# Altium integrated library Altera Cyclone II.IntLib: 234 symbols (part 24 of 38)
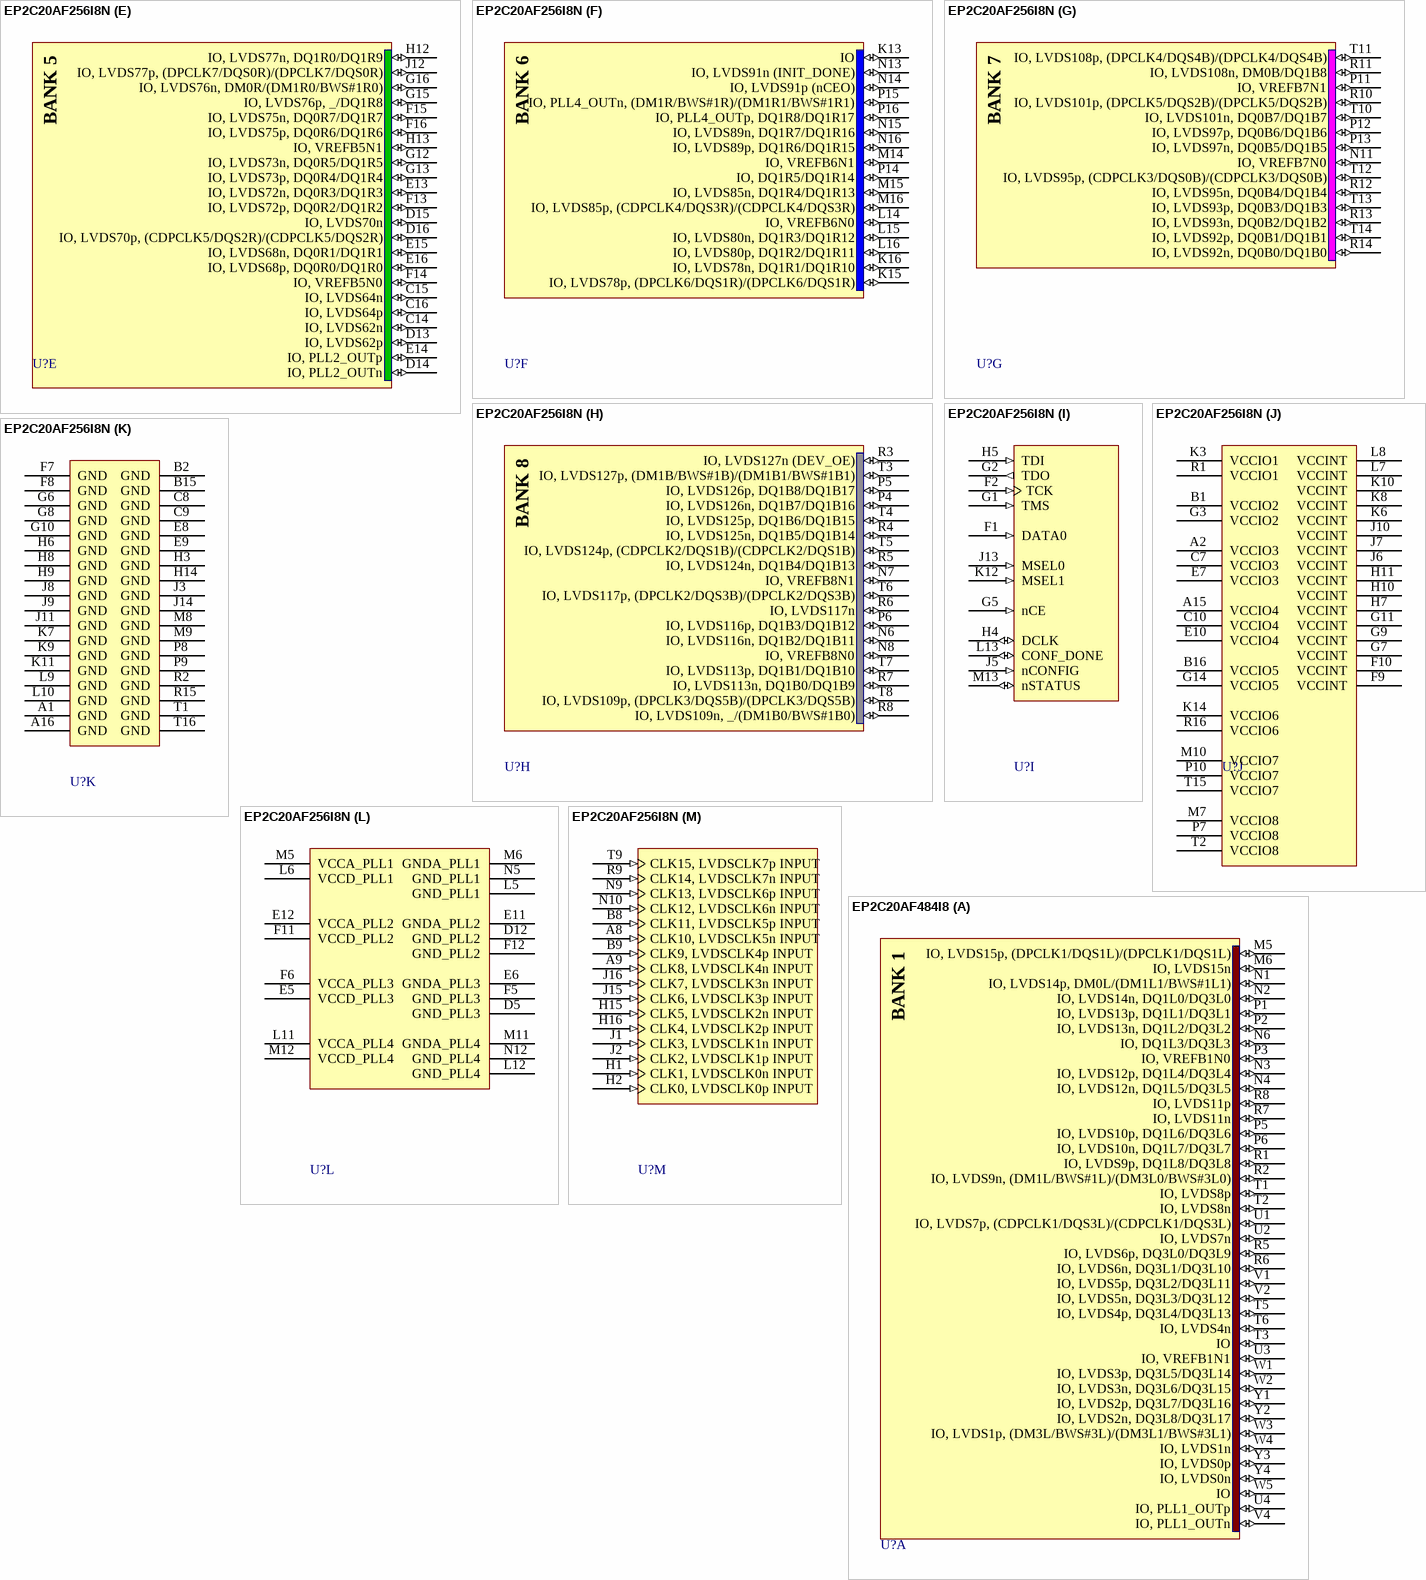
[diagram p414: symbols EP2C20AF256I8N to EP2C20AF484I8]

## EP2C20AF256I8N
designator U?
Cyclone II Family, 1.2V FPGA, 152 I/O Pins, 4 PLLs, 256-Pin FBGA, Speed Grade 8, Industrial Grade, Pb-Free; Note: DQS signal pins named according to DQ bus modes.  "/" separates each mode. ie. Modes x8/x9 / Modes x16/x18.; DatasheetVersion: ver3.3, Feb-2008; PackageVersion: ver16.0, Dec-2009; PackageReference: FBGA256-2; PackageDescription: 256-Ball FineLine Ball Grid Array (FBGA256) - Option 2 - Wire Bond; Code_JEDEC: MO-192-DAF-1; ComponentLink1Description: Manufacturer URL; ComponentLink1URL: http://www.altera.com/; ComponentLink2Description: Handbook; ComponentLink2URL: http://www.altera.com/literature/hb/cyc2/cyc2_cii5v1.pdf; ComponentLink3Description: Package Specification; ComponentLink3URL: http://www.altera.com/literature/ds/dspkg.pdf
footprint FBGA256-2 (BGA, 256-Leads, Body 17x17mm, Pitch 1mm)
part A pins: J4 IO, VREFB1N0 (io), K1 IO, LVDS15n, DQ0L6/DQ1L6 (io), K2 IO, LVDS15p, (DPCLK1/DQS1L)/(DPCLK1/DQS1L) (io), K4 IO, LVDS14p, DQ0L7/DQ1L7 (io), K5 IO, LVDS14n, _/DQ1L8 (io), L1 IO, LVDS13p, DM0L/(DM1L0/BWS#1L0) (io), L2 IO, LVDS13n, DQ1L0/DQ1L9 (io), L3 IO, VREFB1N1 (io), L4 IO, PLL1_OUTp (io), M1 IO, LVDS7p, (CDPCLK1/DQS3L)/(CDPCLK1/DQS3L) (io), M2 IO, LVDS7n, DQ1L1/DQ1L10 (io), M3 IO, DQ1L2/DQ1L11 (io), M4 IO, PLL1_OUTn (io), N1 IO, LVDS3p, DQ1L3/DQ1L12 (io), N2 IO, LVDS3n, DQ1L4/DQ1L13 (io), N3 IO, LVDS0p, DQ1L7/DQ1L16 (io), N4 IO, LVDS0n, DQ1L8/DQ1L17 (io), P1 IO, LVDS2p, DQ1L5/DQ1L14 (io), P2 IO, LVDS2n, DQ1L6/DQ1L15 (io), P3 IO, (DM1L/BWS#1L)/(DM1L1/BWS#1L1) (io)
part B pins: C1 IO, LVDS26p (CRC_ERROR) (io), C2 IO, LVDS26n (CLKUSR) (io), C3 IO, (ASDO) (io), D1 IO, LVDS20n, DQ0L2/DQ1L2 (io), D2 IO, LVDS20p, (CDPCLK0/DQS2L)/(CDPCLK0/DQS2L) (io), D3 IO, PLL3_OUTp, DQ0L0/DQ1L0 (io), D4 IO, PLL3_OUTn, DQ0L1/DQ1L1 (io), E1 IO, LVDS16p, (DPCLK0/DQS0L)/(DPCLK0/DQS0L) (io), E2 IO, LVDS16n, DQ0L5/DQ1L5 (io), E3 IO, LVDS19p, DQ0L3/DQ1L3 (io), E4 IO, LVDS19n, DQ0L4/DQ1L4 (io), F3 IO, VREFB2N0 (io), F4 IO, (nCSO) (io), G4 IO, VREFB2N1 (io)
part C pins: A3 IO, LVDS27p, (DM1T/BWS#1T)/(DM1T1/BWS#1T1) (io), A4 IO, LVDS28p, DQ1T8/DQ1T17 (io), A5 IO, LVDS30p, (CDPCLK7/DQS1T)/(CDPCLK7/DQS1T) (io), A6 IO, LVDS36p, (DPCLK11/DQS3T)/(DPCLK11/DQS3T) (io), A7 IO, LVDS44n, DQ1T0/DQ1T9 (io), B3 IO, LVDS27n (DEV_CLRn) (io), B4 IO, LVDS28n, DQ1T7/DQ1T16 (io), B5 IO, LVDS30n, DQ1T6/DQ1T15 (io), B6 IO, LVDS36n, DQ1T1/DQ1T10 (io), B7 IO, LVDS44p, (DPCLK10/DQS5T)/(DPCLK10/DQS5T) (io), C4 IO, DQ1T5/DQ1T14 (io), C5 IO, VREFB3N1 (io), C6 IO, LVDS32p, DQ1T4/DQ1T13 (io), D6 IO, LVDS32n, DQ1T3/DQ1T12 (io), D7 IO, DQ1T2/DQ1T11 (io), D8 IO, VREFB3N0 (io)
part D pins: A10 IO, LVDS52p, (DPCLK8/DQS2T)/(DPCLK8/DQS2T) (io), A11 IO, LVDS54p, DQ0T7/DQ1T7 (io), A12 IO, LVDS58p, (CDPCLK6/DQS0T)/(CDPCLK6/DQS0T) (io), A13 IO, LVDS59p, DQ0T4/DQ1T4 (io), A14 IO, LVDS61p, DQ0T0/DQ1T0 (io), B10 IO, LVDS52n, _/DQ1T8 (io), B11 IO, LVDS54n, DQ0T6/DQ1T6 (io), B12 IO, LVDS58n, DQ0T5/DQ1T5 (io), B13 IO, LVDS59n, DQ0T3/DQ1T3 (io), B14 IO, LVDS61n (io), C11 IO, VREFB4N0 (io), C12 IO, LVDS60p, DQ0T2/DQ1T2 (io), C13 IO, LVDS60n, DQ0T1/DQ1T1 (io), D9 IO, VREFB4N1 (io), D10 IO, LVDS45p, (DPCLK9/DQS4T)/(DPCLK9/DQS4T) (io), D11 IO, LVDS45n, DM0T/(DM1T0/BWS#1T0) (io)
part E pins: C14 IO, LVDS62n (io), C15 IO, LVDS64n (io), C16 IO, LVDS64p (io), D13 IO, LVDS62p (io), D14 IO, PLL2_OUTn (io), D15 IO, LVDS70n (io), D16 IO, LVDS70p, (CDPCLK5/DQS2R)/(CDPCLK5/DQS2R) (io), E13 IO, LVDS72n, DQ0R3/DQ1R3 (io), E14 IO, PLL2_OUTp (io), E15 IO, LVDS68n, DQ0R1/DQ1R1 (io), E16 IO, LVDS68p, DQ0R0/DQ1R0 (io), F13 IO, LVDS72p, DQ0R2/DQ1R2 (io), F14 IO, VREFB5N0 (io), F15 IO, LVDS75n, DQ0R7/DQ1R7 (io), F16 IO, LVDS75p, DQ0R6/DQ1R6 (io), G12 IO, LVDS73n, DQ0R5/DQ1R5 (io), G13 IO, LVDS73p, DQ0R4/DQ1R4 (io), G15 IO, LVDS76p, _/DQ1R8 (io), G16 IO, LVDS76n, DM0R/(DM1R0/BWS#1R0) (io), H12 IO, LVDS77n, DQ1R0/DQ1R9 (io), H13 IO, VREFB5N1 (io), J12 IO, LVDS77p, (DPCLK7/DQS0R)/(DPCLK7/DQS0R) (io)
part F pins: K13 IO (io), K15 IO, LVDS78p, (DPCLK6/DQS1R)/(DPCLK6/DQS1R) (io), K16 IO, LVDS78n, DQ1R1/DQ1R10 (io), L14 IO, VREFB6N0 (io), L15 IO, LVDS80n, DQ1R3/DQ1R12 (io), L16 IO, LVDS80p, DQ1R2/DQ1R11 (io), M14 IO, VREFB6N1 (io), M15 IO, LVDS85n, DQ1R4/DQ1R13 (io), M16 IO, LVDS85p, (CDPCLK4/DQS3R)/(CDPCLK4/DQS3R) (io), N13 IO, LVDS91n (INIT_DONE) (io), N14 IO, LVDS91p (nCEO) (io), N15 IO, LVDS89n, DQ1R7/DQ1R16 (io), N16 IO, LVDS89p, DQ1R6/DQ1R15 (io), P14 IO, DQ1R5/DQ1R14 (io), P15 IO, PLL4_OUTn, (DM1R/BWS#1R)/(DM1R1/BWS#1R1) (io), P16 IO, PLL4_OUTp, DQ1R8/DQ1R17 (io)
part G pins: N11 IO, VREFB7N0 (io), P11 IO, VREFB7N1 (io), P12 IO, LVDS97p, DQ0B6/DQ1B6 (io), P13 IO, LVDS97n, DQ0B5/DQ1B5 (io), R10 IO, LVDS101p, (DPCLK5/DQS2B)/(DPCLK5/DQS2B) (io), R11 IO, LVDS108n, DM0B/DQ1B8 (io), R12 IO, LVDS95n, DQ0B4/DQ1B4 (io), R13 IO, LVDS93n, DQ0B2/DQ1B2 (io), R14 IO, LVDS92n, DQ0B0/DQ1B0 (io), T10 IO, LVDS101n, DQ0B7/DQ1B7 (io), T11 IO, LVDS108p, (DPCLK4/DQS4B)/(DPCLK4/DQS4B) (io), T12 IO, LVDS95p, (CDPCLK3/DQS0B)/(CDPCLK3/DQS0B) (io), T13 IO, LVDS93p, DQ0B3/DQ1B3 (io), T14 IO, LVDS92p, DQ0B1/DQ1B1 (io)
part H pins: N6 IO, LVDS116n, DQ1B2/DQ1B11 (io), N7 IO, VREFB8N1 (io), N8 IO, VREFB8N0 (io), P4 IO, LVDS126n, DQ1B7/DQ1B16 (io), P5 IO, LVDS126p, DQ1B8/DQ1B17 (io), P6 IO, LVDS116p, DQ1B3/DQ1B12 (io), R3 IO, LVDS127n (DEV_OE) (io), R4 IO, LVDS125n, DQ1B5/DQ1B14 (io), R5 IO, LVDS124n, DQ1B4/DQ1B13 (io), R6 IO, LVDS117n (io), R7 IO, LVDS113n, DQ1B0/DQ1B9 (io), R8 IO, LVDS109n, _/(DM1B0/BWS#1B0) (io), T3 IO, LVDS127p, (DM1B/BWS#1B)/(DM1B1/BWS#1B1) (io), T4 IO, LVDS125p, DQ1B6/DQ1B15 (io), T5 IO, LVDS124p, (CDPCLK2/DQS1B)/(CDPCLK2/DQS1B) (io), T6 IO, LVDS117p, (DPCLK2/DQS3B)/(DPCLK2/DQS3B) (io), T7 IO, LVDS113p, DQ1B1/DQ1B10 (io), T8 IO, LVDS109p, (DPCLK3/DQS5B)/(DPCLK3/DQS5B) (io)
part I pins: F1 DATA0 (in), F2 TCK (in), G1 TMS (in), G2 TDO (out), G5 nCE (in), H4 DCLK (io), H5 TDI (in), J5 nCONFIG (in), J13 MSEL0 (in), K12 MSEL1 (in), L13 CONF_DONE (io), M13 nSTATUS (io)
part J pins: A2 VCCIO3 (power), A15 VCCIO4 (power), B1 VCCIO2 (power), B16 VCCIO5 (power), C7 VCCIO3 (power), C10 VCCIO4 (power), E7 VCCIO3 (power), E10 VCCIO4 (power), F9 VCCINT (power), F10 VCCINT (power), G3 VCCIO2 (power), G7 VCCINT (power), G9 VCCINT (power), G11 VCCINT (power), G14 VCCIO5 (power), H7 VCCINT (power), H10 VCCINT (power), H11 VCCINT (power), J6 VCCINT (power), J7 VCCINT (power), J10 VCCINT (power), K3 VCCIO1 (power), K6 VCCINT (power), K8 VCCINT (power), K10 VCCINT (power), K14 VCCIO6 (power), L7 VCCINT (power), L8 VCCINT (power), M7 VCCIO8 (power), M10 VCCIO7 (power), P7 VCCIO8 (power), P10 VCCIO7 (power), R1 VCCIO1 (power), R16 VCCIO6 (power), T2 VCCIO8 (power), T15 VCCIO7 (power)
part K pins: A1 GND (power), A16 GND (power), B2 GND (power), B15 GND (power), C8 GND (power), C9 GND (power), E8 GND (power), E9 GND (power), F7 GND (power), F8 GND (power), G6 GND (power), G8 GND (power), G10 GND (power), H3 GND (power), H6 GND (power), H8 GND (power), H9 GND (power), H14 GND (power), J3 GND (power), J8 GND (power), J9 GND (power), J11 GND (power), J14 GND (power), K7 GND (power), K9 GND (power), K11 GND (power), L9 GND (power), L10 GND (power), M8 GND (power), M9 GND (power), P8 GND (power), P9 GND (power), R2 GND (power), R15 GND (power), T1 GND (power), T16 GND (power)
part L pins: D5 GND_PLL3 (power), D12 GND_PLL2 (power), E5 VCCD_PLL3 (power), E6 GNDA_PLL3 (power), E11 GNDA_PLL2 (power), E12 VCCA_PLL2 (power), F5 GND_PLL3 (power), F6 VCCA_PLL3 (power), F11 VCCD_PLL2 (power), F12 GND_PLL2 (power), L5 GND_PLL1 (power), L6 VCCD_PLL1 (power), L11 VCCA_PLL4 (power), L12 GND_PLL4 (power), M5 VCCA_PLL1 (power), M6 GNDA_PLL1 (power), M11 GNDA_PLL4 (power), M12 VCCD_PLL4 (power), N5 GND_PLL1 (power), N12 GND_PLL4 (power)
part M pins: A8 CLK10, LVDSCLK5n INPUT (in), A9 CLK8, LVDSCLK4n INPUT (in), B8 CLK11, LVDSCLK5p INPUT (in), B9 CLK9, LVDSCLK4p INPUT (in), H1 CLK1, LVDSCLK0n INPUT (in), H2 CLK0, LVDSCLK0p INPUT (in), H15 CLK5, LVDSCLK2n INPUT (in), H16 CLK4, LVDSCLK2p INPUT (in), J1 CLK3, LVDSCLK1n INPUT (in), J2 CLK2, LVDSCLK1p INPUT (in), J15 CLK6, LVDSCLK3p INPUT (in), J16 CLK7, LVDSCLK3n INPUT (in), N9 CLK13, LVDSCLK6p INPUT (in), N10 CLK12, LVDSCLK6n INPUT (in), R9 CLK14, LVDSCLK7n INPUT (in), T9 CLK15, LVDSCLK7p INPUT (in)
part A text: BANK 1
part B text: BANK 2
part C text: BANK 3
part D text: BANK 4
part E text: BANK 5
part F text: BANK 6
part G text: BANK 7
part H text: BANK 8

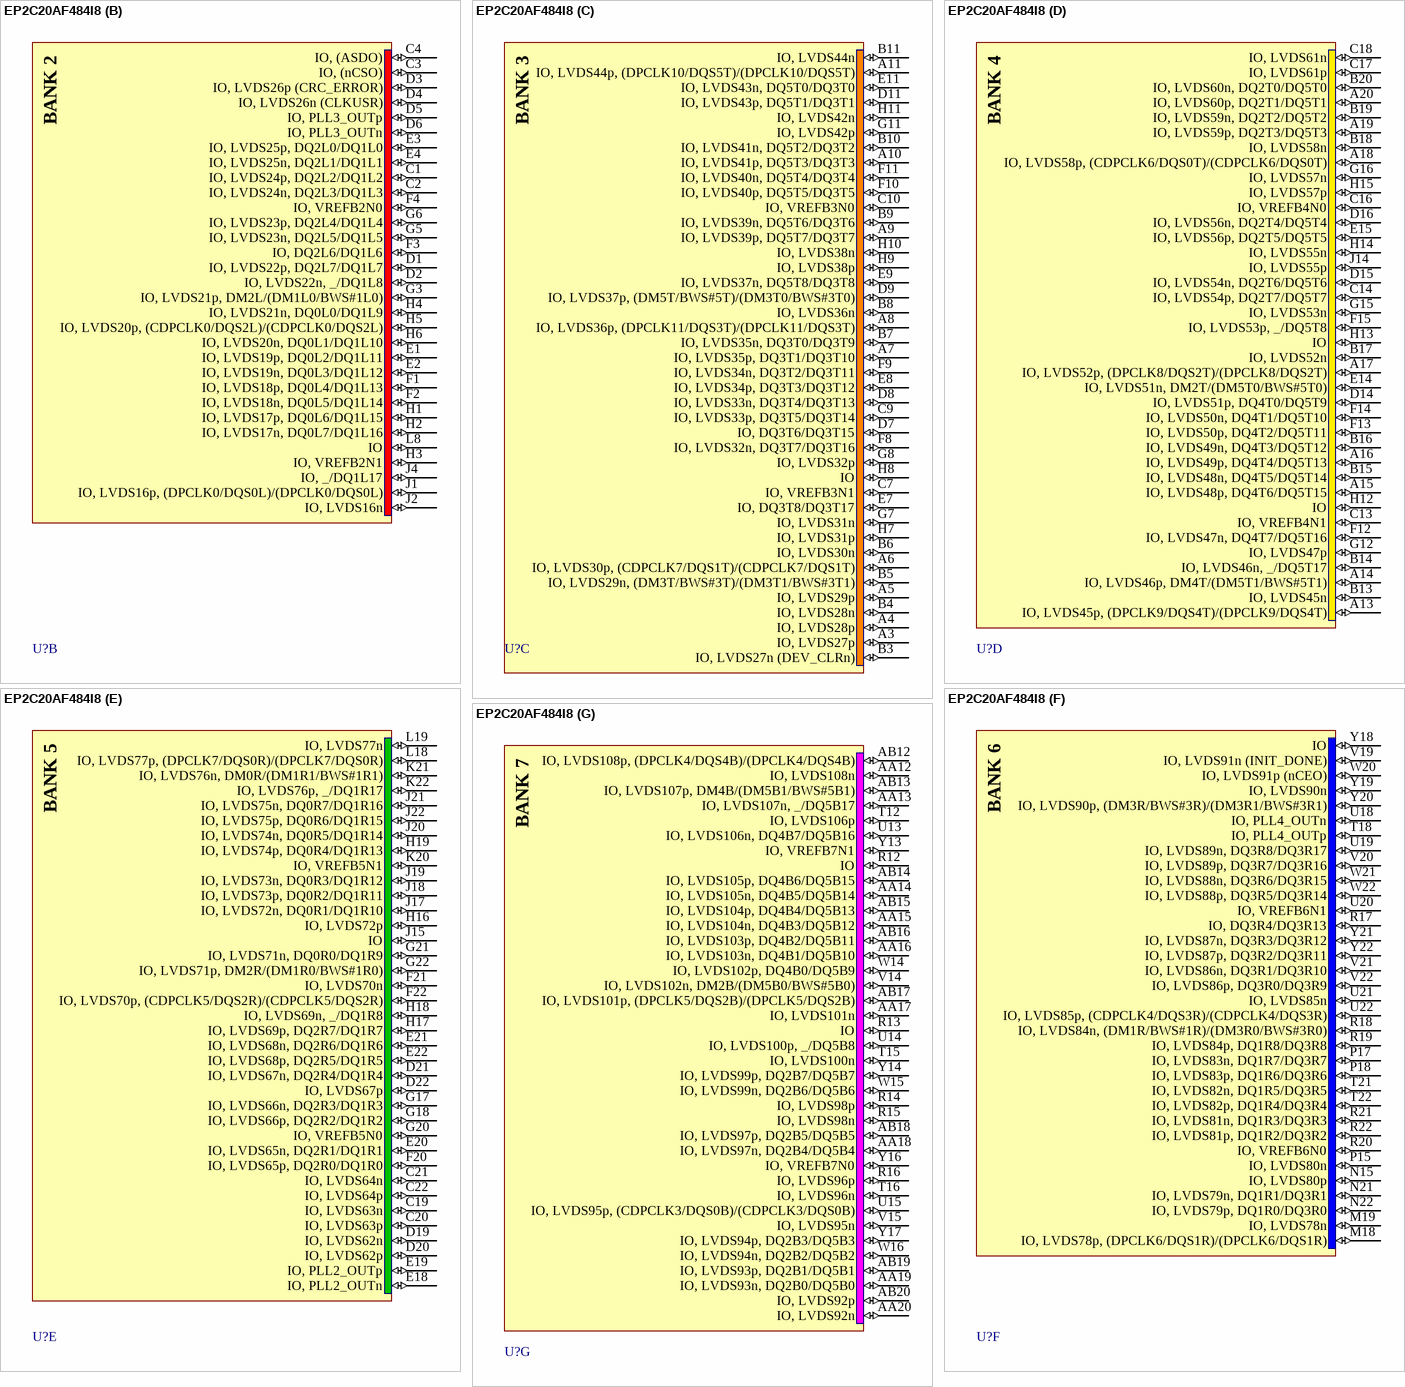
[diagram p105: symbol EP2C20AF484I8]

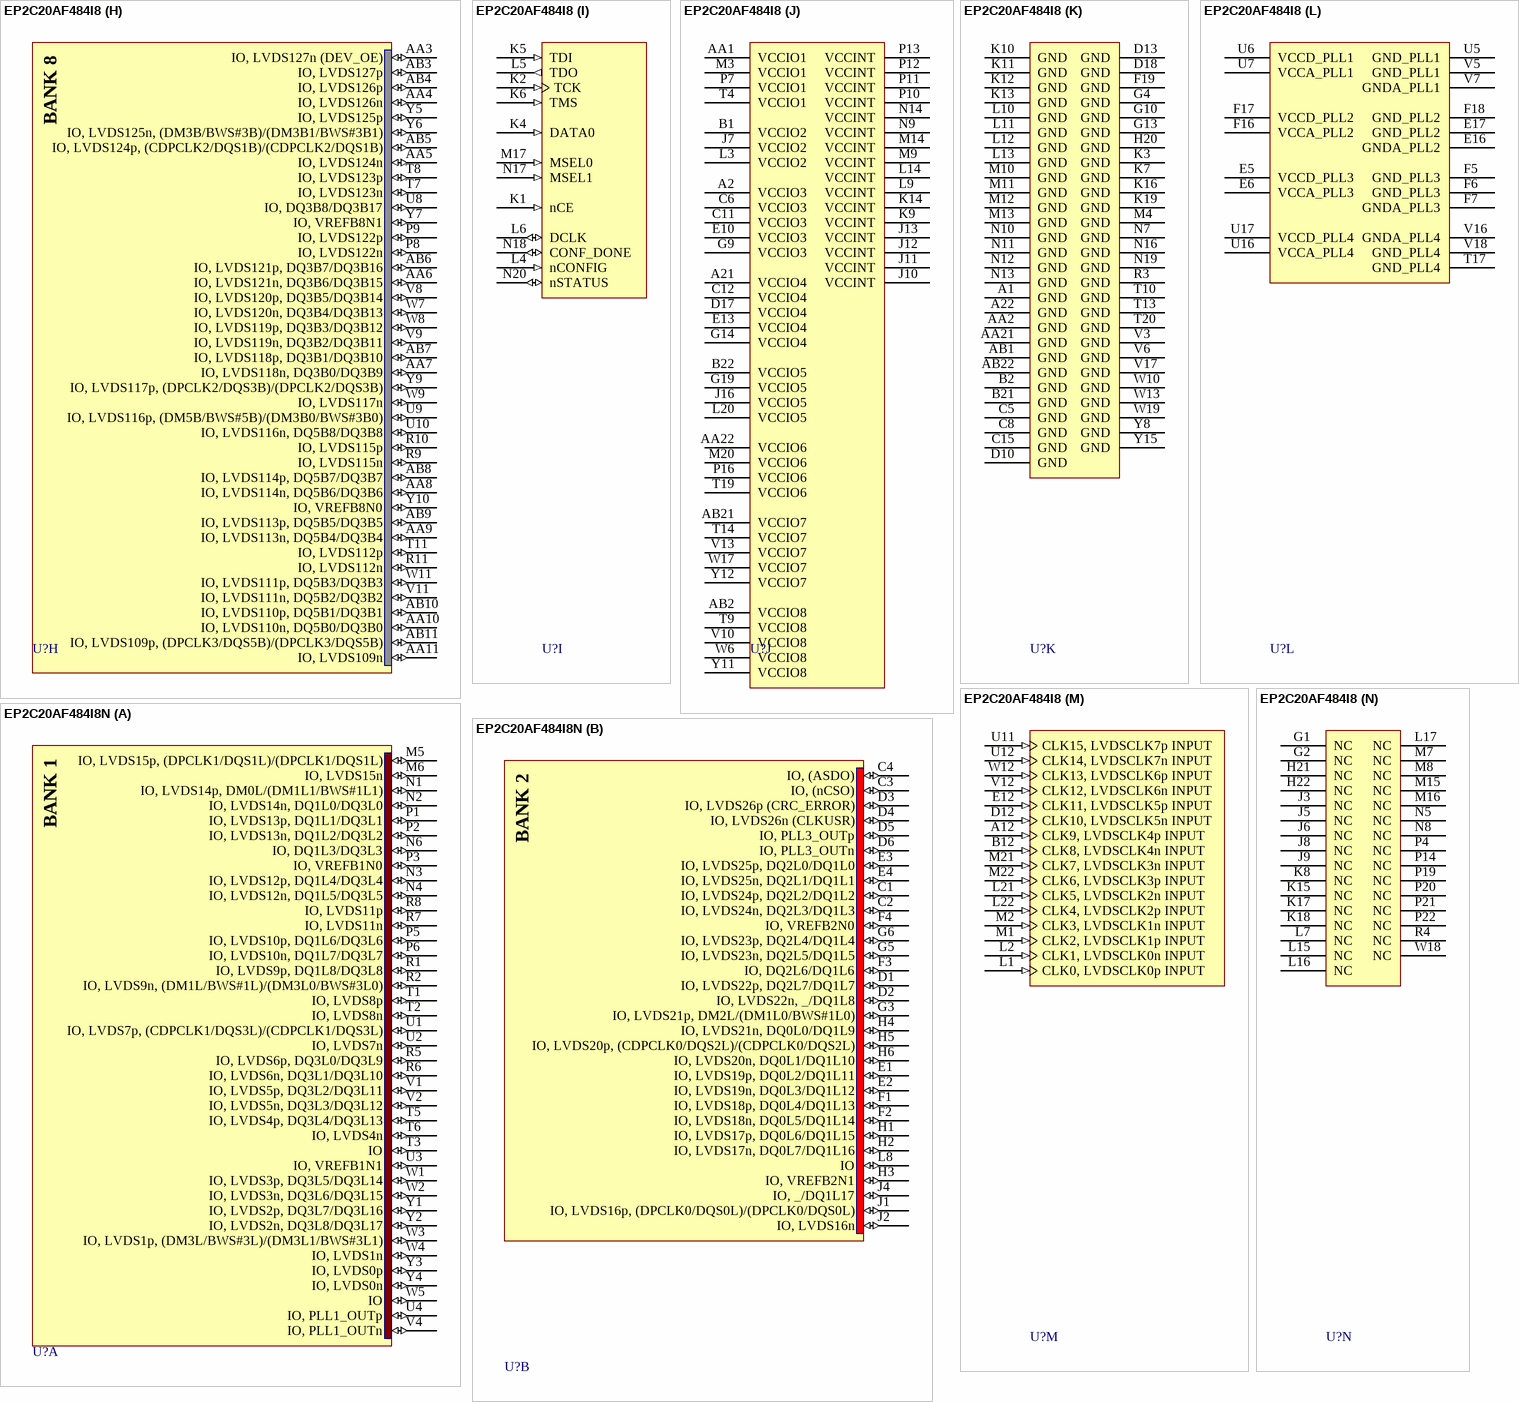
[diagram p106: symbols EP2C20AF484I8 to EP2C20AF484I8N]

## EP2C20AF484I8
designator U?
Cyclone II Family, 1.2V FPGA, 315 I/O Pins, 4 PLLs, 484-Pin FBGA, Speed Grade 8, Industrial Grade; Note: DQS signal pins named according to DQ bus modes.  "/" separates each mode. ie. Modes x8/x9 / Modes x16/x18.; DatasheetVersion: ver3.3, Feb-2008; PackageVersion: ver16.0, Dec-2009; PackageReference: FBGA484; PackageDescription: 484-Ball FineLine Ball Grid Array (FBGA484) - Flip Chip; Code_JEDEC: MS-034-AAJ-1; Code_IPC: BGA100P22X22-484; ComponentLink1Description: Manufacturer URL; ComponentLink1URL: http://www.altera.com/; ComponentLink2Description: Handbook; ComponentLink2URL: http://www.altera.com/literature/hb/cyc2/cyc2_cii5v1.pdf; ComponentLink3Description: Package Specification; ComponentLink3URL: http://www.altera.com/literature/ds/dspkg.pdf
footprint FBGA484 (BGA, 484-Leads, Body 23x23mm, Pitch 1mm)
part A pins: M5 IO, LVDS15p, (DPCLK1/DQS1L)/(DPCLK1/DQS1L) (io), M6 IO, LVDS15n (io), N1 IO, LVDS14p, DM0L/(DM1L1/BWS#1L1) (io), N2 IO, LVDS14n, DQ1L0/DQ3L0 (io), N3 IO, LVDS12p, DQ1L4/DQ3L4 (io), N4 IO, LVDS12n, DQ1L5/DQ3L5 (io), N6 IO, DQ1L3/DQ3L3 (io), P1 IO, LVDS13p, DQ1L1/DQ3L1 (io), P2 IO, LVDS13n, DQ1L2/DQ3L2 (io), P3 IO, VREFB1N0 (io), P5 IO, LVDS10p, DQ1L6/DQ3L6 (io), P6 IO, LVDS10n, DQ1L7/DQ3L7 (io), R1 IO, LVDS9p, DQ1L8/DQ3L8 (io), R2 IO, LVDS9n, (DM1L/BWS#1L)/(DM3L0/BWS#3L0) (io), R5 IO, LVDS6p, DQ3L0/DQ3L9 (io), R6 IO, LVDS6n, DQ3L1/DQ3L10 (io), R7 IO, LVDS11n (io), R8 IO, LVDS11p (io), T1 IO, LVDS8p (io), T2 IO, LVDS8n (io), T3 IO (io), T5 IO, LVDS4p, DQ3L4/DQ3L13 (io), T6 IO, LVDS4n (io), U1 IO, LVDS7p, (CDPCLK1/DQS3L)/(CDPCLK1/DQS3L) (io), U2 IO, LVDS7n (io), U3 IO, VREFB1N1 (io), U4 IO, PLL1_OUTp (io), V1 IO, LVDS5p, DQ3L2/DQ3L11 (io), V2 IO, LVDS5n, DQ3L3/DQ3L12 (io), V4 IO, PLL1_OUTn (io), W1 IO, LVDS3p, DQ3L5/DQ3L14 (io), W2 IO, LVDS3n, DQ3L6/DQ3L15 (io), W3 IO, LVDS1p, (DM3L/BWS#3L)/(DM3L1/BWS#3L1) (io), W4 IO, LVDS1n (io), W5 IO (io), Y1 IO, LVDS2p, DQ3L7/DQ3L16 (io), Y2 IO, LVDS2n, DQ3L8/DQ3L17 (io), Y3 IO, LVDS0p (io), Y4 IO, LVDS0n (io)
part B pins: C1 IO, LVDS24p, DQ2L2/DQ1L2 (io), C2 IO, LVDS24n, DQ2L3/DQ1L3 (io), C3 IO, (nCSO) (io), C4 IO, (ASDO) (io), D1 IO, LVDS22p, DQ2L7/DQ1L7 (io), D2 IO, LVDS22n, _/DQ1L8 (io), D3 IO, LVDS26p (CRC_ERROR) (io), D4 IO, LVDS26n (CLKUSR) (io), D5 IO, PLL3_OUTp (io), D6 IO, PLL3_OUTn (io), E1 IO, LVDS19p, DQ0L2/DQ1L11 (io), E2 IO, LVDS19n, DQ0L3/DQ1L12 (io), E3 IO, LVDS25p, DQ2L0/DQ1L0 (io), E4 IO, LVDS25n, DQ2L1/DQ1L1 (io), F1 IO, LVDS18p, DQ0L4/DQ1L13 (io), F2 IO, LVDS18n, DQ0L5/DQ1L14 (io), F3 IO, DQ2L6/DQ1L6 (io), F4 IO, VREFB2N0 (io), G3 IO, LVDS21p, DM2L/(DM1L0/BWS#1L0) (io), G5 IO, LVDS23n, DQ2L5/DQ1L5 (io), G6 IO, LVDS23p, DQ2L4/DQ1L4 (io), H1 IO, LVDS17p, DQ0L6/DQ1L15 (io), H2 IO, LVDS17n, DQ0L7/DQ1L16 (io), H3 IO, VREFB2N1 (io), H4 IO, LVDS21n, DQ0L0/DQ1L9 (io), H5 IO, LVDS20p, (CDPCLK0/DQS2L)/(CDPCLK0/DQS2L) (io), H6 IO, LVDS20n, DQ0L1/DQ1L10 (io), J1 IO, LVDS16p, (DPCLK0/DQS0L)/(DPCLK0/DQS0L) (io), J2 IO, LVDS16n (io), J4 IO, _/DQ1L17 (io), L8 IO (io)
part C pins: A3 IO, LVDS27p (io), A4 IO, LVDS28p (io), A5 IO, LVDS29p (io), A6 IO, LVDS30p, (CDPCLK7/DQS1T)/(CDPCLK7/DQS1T) (io), A7 IO, LVDS35p, DQ3T1/DQ3T10 (io), A8 IO, LVDS36p, (DPCLK11/DQS3T)/(DPCLK11/DQS3T) (io), A9 IO, LVDS39p, DQ5T7/DQ3T7 (io), A10 IO, LVDS41p, DQ5T3/DQ3T3 (io), A11 IO, LVDS44p, (DPCLK10/DQS5T)/(DPCLK10/DQS5T) (io), B3 IO, LVDS27n (DEV_CLRn) (io), B4 IO, LVDS28n (io), B5 IO, LVDS29n, (DM3T/BWS#3T)/(DM3T1/BWS#3T1) (io), B6 IO, LVDS30n (io), B7 IO, LVDS35n, DQ3T0/DQ3T9 (io), B8 IO, LVDS36n (io), B9 IO, LVDS39n, DQ5T6/DQ3T6 (io), B10 IO, LVDS41n, DQ5T2/DQ3T2 (io), B11 IO, LVDS44n (io), C7 IO, VREFB3N1 (io), C9 IO, LVDS33p, DQ3T5/DQ3T14 (io), C10 IO, VREFB3N0 (io), D7 IO, DQ3T6/DQ3T15 (io), D8 IO, LVDS33n, DQ3T4/DQ3T13 (io), D9 IO, LVDS37p, (DM5T/BWS#5T)/(DM3T0/BWS#3T0) (io), D11 IO, LVDS43p, DQ5T1/DQ3T1 (io), E7 IO, DQ3T8/DQ3T17 (io), E8 IO, LVDS34p, DQ3T3/DQ3T12 (io), E9 IO, LVDS37n, DQ5T8/DQ3T8 (io), E11 IO, LVDS43n, DQ5T0/DQ3T0 (io), F8 IO, LVDS32n, DQ3T7/DQ3T16 (io), F9 IO, LVDS34n, DQ3T2/DQ3T11 (io), F10 IO, LVDS40p, DQ5T5/DQ3T5 (io), F11 IO, LVDS40n, DQ5T4/DQ3T4 (io), G7 IO, LVDS31n (io), G8 IO, LVDS32p (io), G11 IO, LVDS42p (io), H7 IO, LVDS31p (io), H8 IO (io), H9 IO, LVDS38p (io), H10 IO, LVDS38n (io), H11 IO, LVDS42n (io)
part D pins: A13 IO, LVDS45p, (DPCLK9/DQS4T)/(DPCLK9/DQS4T) (io), A14 IO, LVDS46p, DM4T/(DM5T1/BWS#5T1) (io), A15 IO, LVDS48p, DQ4T6/DQ5T15 (io), A16 IO, LVDS49p, DQ4T4/DQ5T13 (io), A17 IO, LVDS52p, (DPCLK8/DQS2T)/(DPCLK8/DQS2T) (io), A18 IO, LVDS58p, (CDPCLK6/DQS0T)/(CDPCLK6/DQS0T) (io), A19 IO, LVDS59p, DQ2T3/DQ5T3 (io), A20 IO, LVDS60p, DQ2T1/DQ5T1 (io), B13 IO, LVDS45n (io), B14 IO, LVDS46n, _/DQ5T17 (io), B15 IO, LVDS48n, DQ4T5/DQ5T14 (io), B16 IO, LVDS49n, DQ4T3/DQ5T12 (io), B17 IO, LVDS52n (io), B18 IO, LVDS58n (io), B19 IO, LVDS59n, DQ2T2/DQ5T2 (io), B20 IO, LVDS60n, DQ2T0/DQ5T0 (io), C13 IO, VREFB4N1 (io), C14 IO, LVDS54p, DQ2T7/DQ5T7 (io), C16 IO, VREFB4N0 (io), C17 IO, LVDS61p (io), C18 IO, LVDS61n (io), D14 IO, LVDS51p, DQ4T0/DQ5T9 (io), D15 IO, LVDS54n, DQ2T6/DQ5T6 (io), D16 IO, LVDS56n, DQ2T4/DQ5T4 (io), E14 IO, LVDS51n, DM2T/(DM5T0/BWS#5T0) (io), E15 IO, LVDS56p, DQ2T5/DQ5T5 (io), F12 IO, LVDS47n, DQ4T7/DQ5T16 (io), F13 IO, LVDS50p, DQ4T2/DQ5T11 (io), F14 IO, LVDS50n, DQ4T1/DQ5T10 (io), F15 IO, LVDS53p, _/DQ5T8 (io), G12 IO, LVDS47p (io), G15 IO, LVDS53n (io), G16 IO, LVDS57n (io), H12 IO (io), H13 IO (io), H14 IO, LVDS55n (io), H15 IO, LVDS57p (io), J14 IO, LVDS55p (io)
part E pins: C19 IO, LVDS63n (io), C20 IO, LVDS63p (io), C21 IO, LVDS64n (io), C22 IO, LVDS64p (io), D19 IO, LVDS62n (io), D20 IO, LVDS62p (io), D21 IO, LVDS67n, DQ2R4/DQ1R4 (io), D22 IO, LVDS67p (io), E18 IO, PLL2_OUTn (io), E19 IO, PLL2_OUTp (io), E20 IO, LVDS65n, DQ2R1/DQ1R1 (io), E21 IO, LVDS68n, DQ2R6/DQ1R6 (io), E22 IO, LVDS68p, DQ2R5/DQ1R5 (io), F20 IO, LVDS65p, DQ2R0/DQ1R0 (io), F21 IO, LVDS70n (io), F22 IO, LVDS70p, (CDPCLK5/DQS2R)/(CDPCLK5/DQS2R) (io), G17 IO, LVDS66n, DQ2R3/DQ1R3 (io), G18 IO, LVDS66p, DQ2R2/DQ1R2 (io), G20 IO, VREFB5N0 (io), G21 IO, LVDS71n, DQ0R0/DQ1R9 (io), G22 IO, LVDS71p, DM2R/(DM1R0/BWS#1R0) (io), H16 IO, LVDS72p (io), H17 IO, LVDS69p, DQ2R7/DQ1R7 (io), H18 IO, LVDS69n, _/DQ1R8 (io), H19 IO, LVDS74p, DQ0R4/DQ1R13 (io), J15 IO (io), J17 IO, LVDS72n, DQ0R1/DQ1R10 (io), J18 IO, LVDS73p, DQ0R2/DQ1R11 (io), J19 IO, LVDS73n, DQ0R3/DQ1R12 (io), J20 IO, LVDS74n, DQ0R5/DQ1R14 (io), J21 IO, LVDS75n, DQ0R7/DQ1R16 (io), J22 IO, LVDS75p, DQ0R6/DQ1R15 (io), K20 IO, VREFB5N1 (io), K21 IO, LVDS76n, DM0R/(DM1R1/BWS#1R1) (io), K22 IO, LVDS76p, _/DQ1R17 (io), L18 IO, LVDS77p, (DPCLK7/DQS0R)/(DPCLK7/DQS0R) (io), L19 IO, LVDS77n (io)
part F pins: M18 IO, LVDS78p, (DPCLK6/DQS1R)/(DPCLK6/DQS1R) (io), M19 IO, LVDS78n (io), N15 IO, LVDS80p (io), N21 IO, LVDS79n, DQ1R1/DQ3R1 (io), N22 IO, LVDS79p, DQ1R0/DQ3R0 (io), P15 IO, LVDS80n (io), P17 IO, LVDS83n, DQ1R7/DQ3R7 (io), P18 IO, LVDS83p, DQ1R6/DQ3R6 (io), R17 IO, DQ3R4/DQ3R13 (io), R18 IO, LVDS84n, (DM1R/BWS#1R)/(DM3R0/BWS#3R0) (io), R19 IO, LVDS84p, DQ1R8/DQ3R8 (io), R20 IO, VREFB6N0 (io), R21 IO, LVDS81n, DQ1R3/DQ3R3 (io), R22 IO, LVDS81p, DQ1R2/DQ3R2 (io), T18 IO, PLL4_OUTp (io), T21 IO, LVDS82n, DQ1R5/DQ3R5 (io), T22 IO, LVDS82p, DQ1R4/DQ3R4 (io), U18 IO, PLL4_OUTn (io), U19 IO, LVDS89n, DQ3R8/DQ3R17 (io), U20 IO, VREFB6N1 (io), U21 IO, LVDS85n (io), U22 IO, LVDS85p, (CDPCLK4/DQS3R)/(CDPCLK4/DQS3R) (io), V19 IO, LVDS91n (INIT_DONE) (io), V20 IO, LVDS89p, DQ3R7/DQ3R16 (io), V21 IO, LVDS86n, DQ3R1/DQ3R10 (io), V22 IO, LVDS86p, DQ3R0/DQ3R9 (io), W20 IO, LVDS91p (nCEO) (io), W21 IO, LVDS88n, DQ3R6/DQ3R15 (io), W22 IO, LVDS88p, DQ3R5/DQ3R14 (io), Y18 IO (io), Y19 IO, LVDS90n (io), Y20 IO, LVDS90p, (DM3R/BWS#3R)/(DM3R1/BWS#3R1) (io), Y21 IO, LVDS87n, DQ3R3/DQ3R12 (io), Y22 IO, LVDS87p, DQ3R2/DQ3R11 (io)
part G pins: AA12 IO, LVDS108n (io), AA13 IO, LVDS107n, _/DQ5B17 (io), AA14 IO, LVDS105n, DQ4B5/DQ5B14 (io), AA15 IO, LVDS104n, DQ4B3/DQ5B12 (io), AA16 IO, LVDS103n, DQ4B1/DQ5B10 (io), AA17 IO, LVDS101n (io), AA18 IO, LVDS97n, DQ2B4/DQ5B4 (io), AA19 IO, LVDS93n, DQ2B0/DQ5B0 (io), AA20 IO, LVDS92n (io), AB12 IO, LVDS108p, (DPCLK4/DQS4B)/(DPCLK4/DQS4B) (io), AB13 IO, LVDS107p, DM4B/(DM5B1/BWS#5B1) (io), AB14 IO, LVDS105p, DQ4B6/DQ5B15 (io), AB15 IO, LVDS104p, DQ4B4/DQ5B13 (io), AB16 IO, LVDS103p, DQ4B2/DQ5B11 (io), AB17 IO, LVDS101p, (DPCLK5/DQS2B)/(DPCLK5/DQS2B) (io), AB18 IO, LVDS97p, DQ2B5/DQ5B5 (io), AB19 IO, LVDS93p, DQ2B1/DQ5B1 (io), AB20 IO, LVDS92p (io), R12 IO (io), R13 IO (io), R14 IO, LVDS98p (io), R15 IO, LVDS98n (io), R16 IO, LVDS96p (io), T12 IO, LVDS106p (io), T15 IO, LVDS100n (io), T16 IO, LVDS96n (io), U13 IO, LVDS106n, DQ4B7/DQ5B16 (io), U14 IO, LVDS100p, _/DQ5B8 (io), U15 IO, LVDS95p, (CDPCLK3/DQS0B)/(CDPCLK3/DQS0B) (io), V14 IO, LVDS102n, DM2B/(DM5B0/BWS#5B0) (io), V15 IO, LVDS95n (io), W14 IO, LVDS102p, DQ4B0/DQ5B9 (io), W15 IO, LVDS99n, DQ2B6/DQ5B6 (io), W16 IO, LVDS94n, DQ2B2/DQ5B2 (io), Y13 IO, VREFB7N1 (io), Y14 IO, LVDS99p, DQ2B7/DQ5B7 (io), Y16 IO, VREFB7N0 (io), Y17 IO, LVDS94p, DQ2B3/DQ5B3 (io)
part H pins: AA3 IO, LVDS127n (DEV_OE) (io), AA4 IO, LVDS126n (io), AA5 IO, LVDS124n (io), AA6 IO, LVDS121n, DQ3B6/DQ3B15 (io), AA7 IO, LVDS118n, DQ3B0/DQ3B9 (io), AA8 IO, LVDS114n, DQ5B6/DQ3B6 (io), AA9 IO, LVDS113n, DQ5B4/DQ3B4 (io), AA10 IO, LVDS110n, DQ5B0/DQ3B0 (io), AA11 IO, LVDS109n (io), AB3 IO, LVDS127p (io), AB4 IO, LVDS126p (io), AB5 IO, LVDS124p, (CDPCLK2/DQS1B)/(CDPCLK2/DQS1B) (io), AB6 IO, LVDS121p, DQ3B7/DQ3B16 (io), AB7 IO, LVDS118p, DQ3B1/DQ3B10 (io), AB8 IO, LVDS114p, DQ5B7/DQ3B7 (io), AB9 IO, LVDS113p, DQ5B5/DQ3B5 (io), AB10 IO, LVDS110p, DQ5B1/DQ3B1 (io), AB11 IO, LVDS109p, (DPCLK3/DQS5B)/(DPCLK3/DQS5B) (io), P8 IO, LVDS122n (io), P9 IO, LVDS122p (io), R9 IO, LVDS115n (io), R10 IO, LVDS115p (io), R11 IO, LVDS112n (io), T7 IO, LVDS123n (io), T8 IO, LVDS123p (io), T11 IO, LVDS112p (io), U8 IO, DQ3B8/DQ3B17 (io), U9 IO, LVDS116p, (DM5B/BWS#5B)/(DM3B0/BWS#3B0) (io), U10 IO, LVDS116n, DQ5B8/DQ3B8 (io), V8 IO, LVDS120p, DQ3B5/DQ3B14 (io), V9 IO, LVDS119n, DQ3B2/DQ3B11 (io), V11 IO, LVDS111n, DQ5B2/DQ3B2 (io), W7 IO, LVDS120n, DQ3B4/DQ3B13 (io), W8 IO, LVDS119p, DQ3B3/DQ3B12 (io), W9 IO, LVDS117n (io), W11 IO, LVDS111p, DQ5B3/DQ3B3 (io), Y5 IO, LVDS125p (io), Y6 IO, LVDS125n, (DM3B/BWS#3B)/(DM3B1/BWS#3B1) (io), Y7 IO, VREFB8N1 (io), Y9 IO, LVDS117p, (DPCLK2/DQS3B)/(DPCLK2/DQS3B) (io), Y10 IO, VREFB8N0 (io)
part I pins: K1 nCE (in), K2 TCK (in), K4 DATA0 (in), K5 TDI (in), K6 TMS (in), L4 nCONFIG (in), L5 TDO (out), L6 DCLK (io), M17 MSEL0 (in), N17 MSEL1 (in), N18 CONF_DONE (io), N20 nSTATUS (io)
part J pins: A2 VCCIO3 (power), A21 VCCIO4 (power), AA1 VCCIO1 (power), AA22 VCCIO6 (power), AB2 VCCIO8 (power), AB21 VCCIO7 (power), B1 VCCIO2 (power), B22 VCCIO5 (power), C6 VCCIO3 (power), C11 VCCIO3 (power), C12 VCCIO4 (power), D17 VCCIO4 (power), E10 VCCIO3 (power), E13 VCCIO4 (power), G9 VCCIO3 (power), G14 VCCIO4 (power), G19 VCCIO5 (power), J7 VCCIO2 (power), J10 VCCINT (power), J11 VCCINT (power), J12 VCCINT (power), J13 VCCINT (power), J16 VCCIO5 (power), K9 VCCINT (power), K14 VCCINT (power), L3 VCCIO2 (power), L9 VCCINT (power), L14 VCCINT (power), L20 VCCIO5 (power), M3 VCCIO1 (power), M9 VCCINT (power), M14 VCCINT (power), M20 VCCIO6 (power), N9 VCCINT (power), N14 VCCINT (power), P7 VCCIO1 (power), P10 VCCINT (power), P11 VCCINT (power), P12 VCCINT (power), P13 VCCINT (power), P16 VCCIO6 (power), T4 VCCIO1 (power), T9 VCCIO8 (power), T14 VCCIO7 (power), T19 VCCIO6 (power), V10 VCCIO8 (power), V13 VCCIO7 (power), W6 VCCIO8 (power), W17 VCCIO7 (power), Y11 VCCIO8 (power), Y12 VCCIO7 (power)
part K pins: A1 GND (power), A22 GND (power), AA2 GND (power), AA21 GND (power), AB1 GND (power), AB22 GND (power), B2 GND (power), B21 GND (power), C5 GND (power), C8 GND (power), C15 GND (power), D10 GND (power), D13 GND (power), D18 GND (power), F19 GND (power), G4 GND (power), G10 GND (power), G13 GND (power), H20 GND (power), K3 GND (power), K7 GND (power), K10 GND (power), K11 GND (power), K12 GND (power), K13 GND (power), K16 GND (power), K19 GND (power), L10 GND (power), L11 GND (power), L12 GND (power), L13 GND (power), M4 GND (power), M10 GND (power), M11 GND (power), M12 GND (power), M13 GND (power), N7 GND (power), N10 GND (power), N11 GND (power), N12 GND (power), N13 GND (power), N16 GND (power), N19 GND (power), R3 GND (power), T10 GND (power), T13 GND (power), T20 GND (power), V3 GND (power), V6 GND (power), V17 GND (power), W10 GND (power), W13 GND (power), W19 GND (power), Y8 GND (power), Y15 GND (power)
part L pins: E5 VCCD_PLL3 (power), E6 VCCA_PLL3 (power), E16 GNDA_PLL2 (power), E17 GND_PLL2 (power), F5 GND_PLL3 (power), F6 GND_PLL3 (power), F7 GNDA_PLL3 (power), F16 VCCA_PLL2 (power), F17 VCCD_PLL2 (power), F18 GND_PLL2 (power), T17 GND_PLL4 (power), U5 GND_PLL1 (power), U6 VCCD_PLL1 (power), U7 VCCA_PLL1 (power), U16 VCCA_PLL4 (power), U17 VCCD_PLL4 (power), V5 GND_PLL1 (power), V7 GNDA_PLL1 (power), V16 GNDA_PLL4 (power), V18 GND_PLL4 (power)
part M pins: A12 CLK9, LVDSCLK4p INPUT (in), B12 CLK8, LVDSCLK4n INPUT (in), D12 CLK10, LVDSCLK5n INPUT (in), E12 CLK11, LVDSCLK5p INPUT (in), L1 CLK0, LVDSCLK0p INPUT (in), L2 CLK1, LVDSCLK0n INPUT (in), L21 CLK5, LVDSCLK2n INPUT (in), L22 CLK4, LVDSCLK2p INPUT (in), M1 CLK2, LVDSCLK1p INPUT (in), M2 CLK3, LVDSCLK1n INPUT (in), M21 CLK7, LVDSCLK3n INPUT (in), M22 CLK6, LVDSCLK3p INPUT (in), U11 CLK15, LVDSCLK7p INPUT (in), U12 CLK14, LVDSCLK7n INPUT (in), V12 CLK12, LVDSCLK6n INPUT (in), W12 CLK13, LVDSCLK6p INPUT (in)
part N pins: G1 NC, G2 NC, H21 NC, H22 NC, J3 NC, J5 NC, J6 NC, J8 NC, J9 NC, K8 NC, K15 NC, K17 NC, K18 NC, L7 NC, L15 NC, L16 NC, L17 NC, M7 NC, M8 NC, M15 NC, M16 NC, N5 NC, N8 NC, P4 NC, P14 NC, P19 NC, P20 NC, P21 NC, P22 NC, R4 NC, W18 NC
part A text: BANK 1
part B text: BANK 2
part C text: BANK 3
part D text: BANK 4
part E text: BANK 5
part F text: BANK 6
part G text: BANK 7
part H text: BANK 8

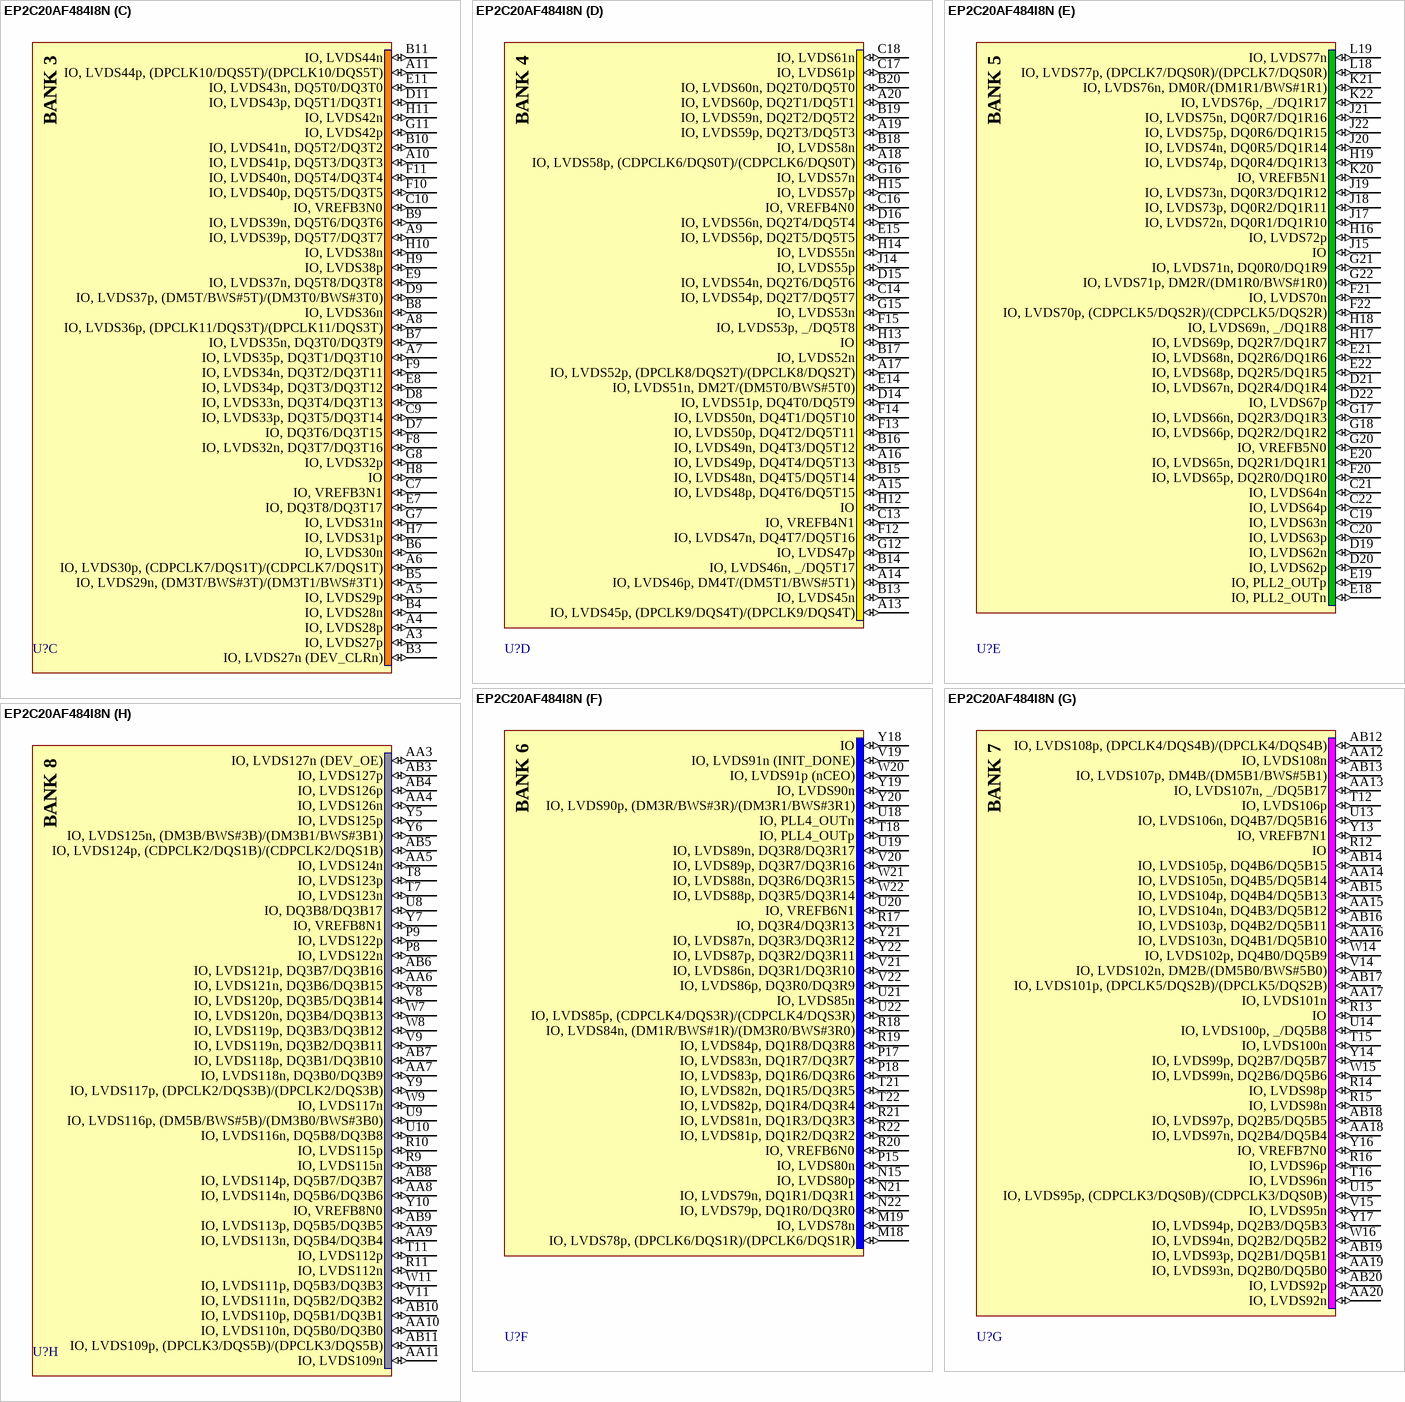
[diagram p107: symbol EP2C20AF484I8N]

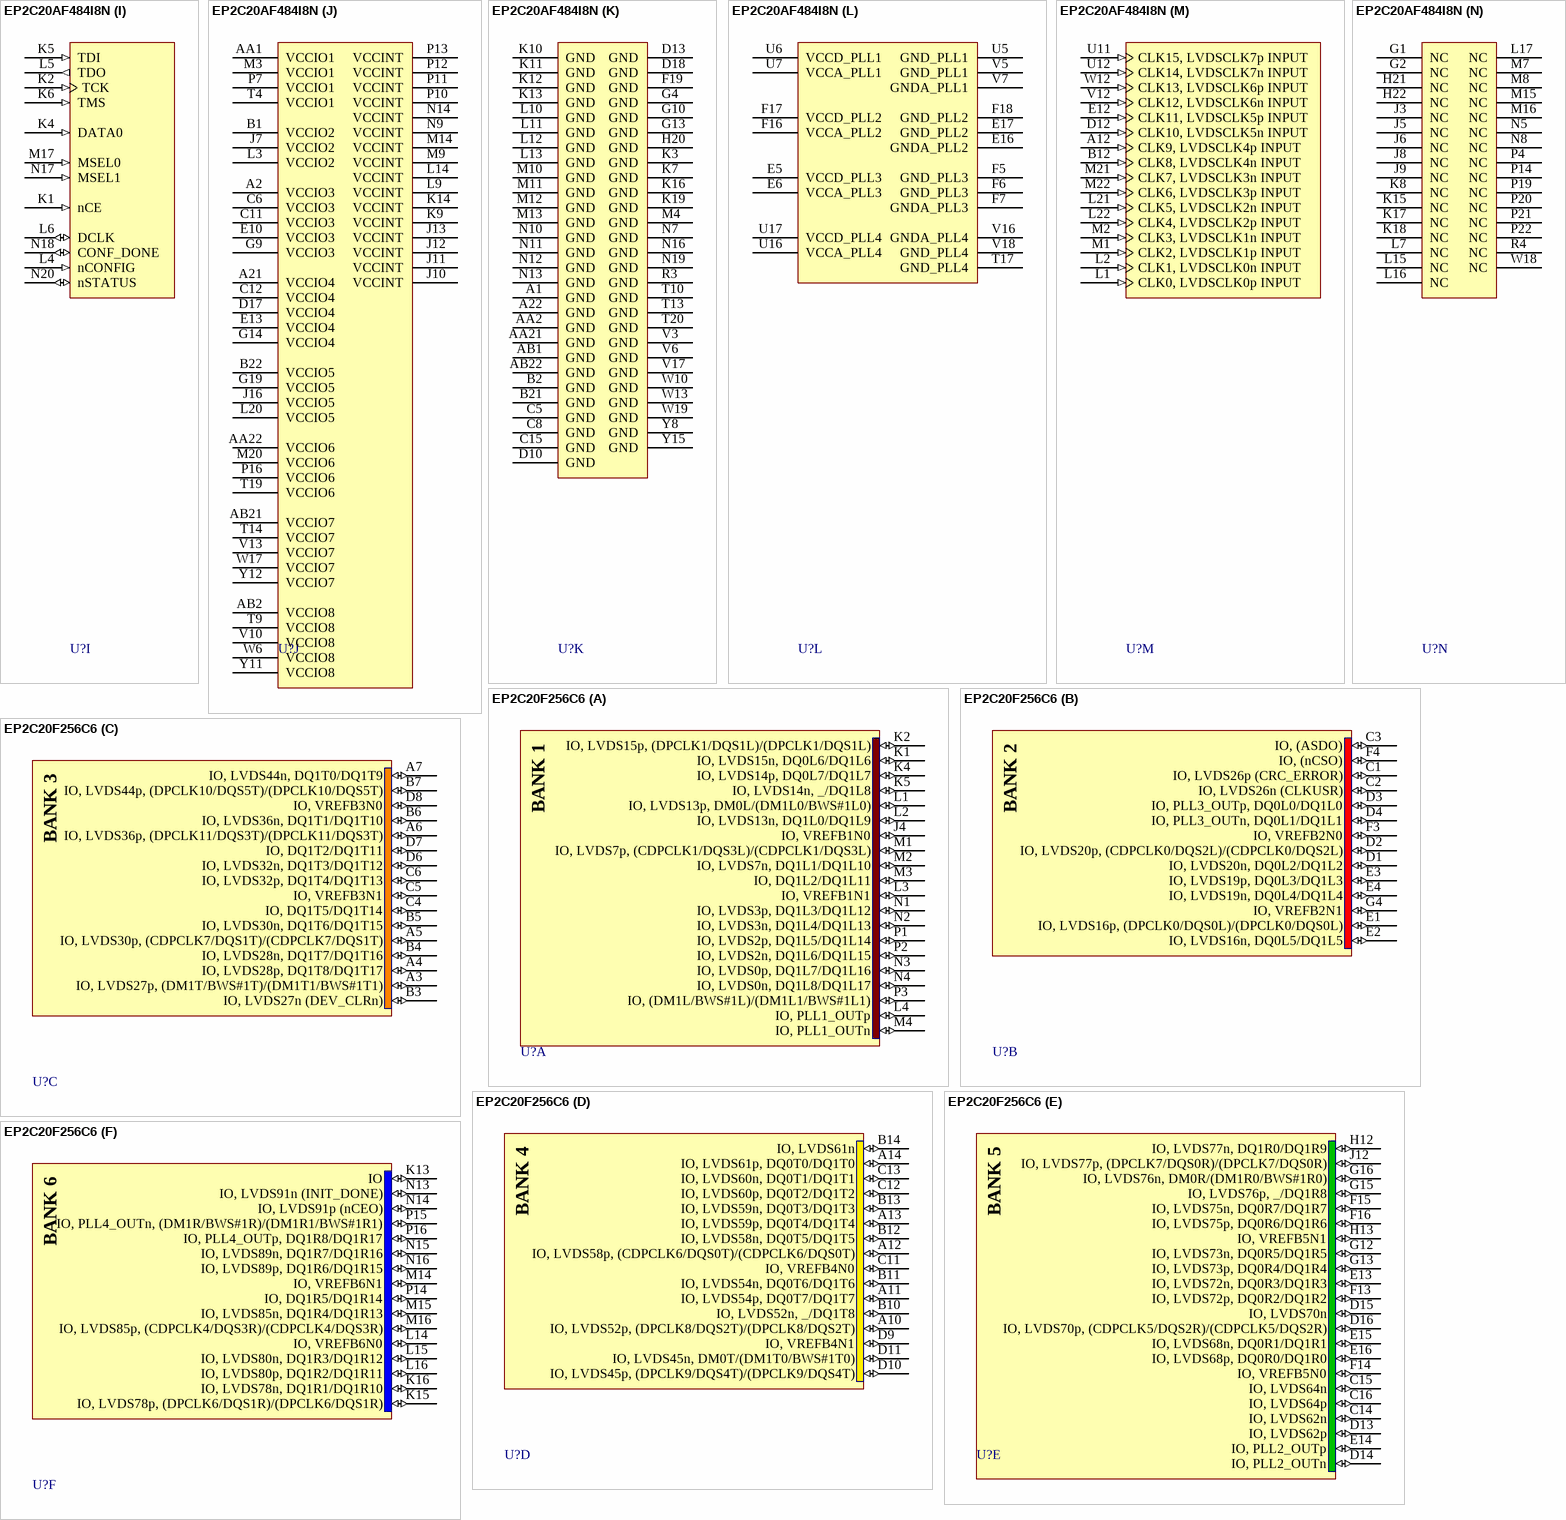
[diagram p108: symbols EP2C20AF484I8N to EP2C20F256C6]

## EP2C20AF484I8N
designator U?
Cyclone II Family, 1.2V FPGA, 315 I/O Pins, 4 PLLs, 484-Pin FBGA, Speed Grade 8, Industrial Grade, Pb-Free; Note: DQS signal pins named according to DQ bus modes.  "/" separates each mode. ie. Modes x8/x9 / Modes x16/x18.; DatasheetVersion: ver3.3, Feb-2008; PackageVersion: ver16.0, Dec-2009; PackageReference: FBGA484; PackageDescription: 484-Ball FineLine Ball Grid Array (FBGA484) - Flip Chip; Code_JEDEC: MS-034-AAJ-1; Code_IPC: BGA100P22X22-484; ComponentLink1Description: Manufacturer URL; ComponentLink1URL: http://www.altera.com/; ComponentLink2Description: Handbook; ComponentLink2URL: http://www.altera.com/literature/hb/cyc2/cyc2_cii5v1.pdf; ComponentLink3Description: Package Specification; ComponentLink3URL: http://www.altera.com/literature/ds/dspkg.pdf
footprint FBGA484 (BGA, 484-Leads, Body 23x23mm, Pitch 1mm)
part A pins: M5 IO, LVDS15p, (DPCLK1/DQS1L)/(DPCLK1/DQS1L) (io), M6 IO, LVDS15n (io), N1 IO, LVDS14p, DM0L/(DM1L1/BWS#1L1) (io), N2 IO, LVDS14n, DQ1L0/DQ3L0 (io), N3 IO, LVDS12p, DQ1L4/DQ3L4 (io), N4 IO, LVDS12n, DQ1L5/DQ3L5 (io), N6 IO, DQ1L3/DQ3L3 (io), P1 IO, LVDS13p, DQ1L1/DQ3L1 (io), P2 IO, LVDS13n, DQ1L2/DQ3L2 (io), P3 IO, VREFB1N0 (io), P5 IO, LVDS10p, DQ1L6/DQ3L6 (io), P6 IO, LVDS10n, DQ1L7/DQ3L7 (io), R1 IO, LVDS9p, DQ1L8/DQ3L8 (io), R2 IO, LVDS9n, (DM1L/BWS#1L)/(DM3L0/BWS#3L0) (io), R5 IO, LVDS6p, DQ3L0/DQ3L9 (io), R6 IO, LVDS6n, DQ3L1/DQ3L10 (io), R7 IO, LVDS11n (io), R8 IO, LVDS11p (io), T1 IO, LVDS8p (io), T2 IO, LVDS8n (io), T3 IO (io), T5 IO, LVDS4p, DQ3L4/DQ3L13 (io), T6 IO, LVDS4n (io), U1 IO, LVDS7p, (CDPCLK1/DQS3L)/(CDPCLK1/DQS3L) (io), U2 IO, LVDS7n (io), U3 IO, VREFB1N1 (io), U4 IO, PLL1_OUTp (io), V1 IO, LVDS5p, DQ3L2/DQ3L11 (io), V2 IO, LVDS5n, DQ3L3/DQ3L12 (io), V4 IO, PLL1_OUTn (io), W1 IO, LVDS3p, DQ3L5/DQ3L14 (io), W2 IO, LVDS3n, DQ3L6/DQ3L15 (io), W3 IO, LVDS1p, (DM3L/BWS#3L)/(DM3L1/BWS#3L1) (io), W4 IO, LVDS1n (io), W5 IO (io), Y1 IO, LVDS2p, DQ3L7/DQ3L16 (io), Y2 IO, LVDS2n, DQ3L8/DQ3L17 (io), Y3 IO, LVDS0p (io), Y4 IO, LVDS0n (io)
part B pins: C1 IO, LVDS24p, DQ2L2/DQ1L2 (io), C2 IO, LVDS24n, DQ2L3/DQ1L3 (io), C3 IO, (nCSO) (io), C4 IO, (ASDO) (io), D1 IO, LVDS22p, DQ2L7/DQ1L7 (io), D2 IO, LVDS22n, _/DQ1L8 (io), D3 IO, LVDS26p (CRC_ERROR) (io), D4 IO, LVDS26n (CLKUSR) (io), D5 IO, PLL3_OUTp (io), D6 IO, PLL3_OUTn (io), E1 IO, LVDS19p, DQ0L2/DQ1L11 (io), E2 IO, LVDS19n, DQ0L3/DQ1L12 (io), E3 IO, LVDS25p, DQ2L0/DQ1L0 (io), E4 IO, LVDS25n, DQ2L1/DQ1L1 (io), F1 IO, LVDS18p, DQ0L4/DQ1L13 (io), F2 IO, LVDS18n, DQ0L5/DQ1L14 (io), F3 IO, DQ2L6/DQ1L6 (io), F4 IO, VREFB2N0 (io), G3 IO, LVDS21p, DM2L/(DM1L0/BWS#1L0) (io), G5 IO, LVDS23n, DQ2L5/DQ1L5 (io), G6 IO, LVDS23p, DQ2L4/DQ1L4 (io), H1 IO, LVDS17p, DQ0L6/DQ1L15 (io), H2 IO, LVDS17n, DQ0L7/DQ1L16 (io), H3 IO, VREFB2N1 (io), H4 IO, LVDS21n, DQ0L0/DQ1L9 (io), H5 IO, LVDS20p, (CDPCLK0/DQS2L)/(CDPCLK0/DQS2L) (io), H6 IO, LVDS20n, DQ0L1/DQ1L10 (io), J1 IO, LVDS16p, (DPCLK0/DQS0L)/(DPCLK0/DQS0L) (io), J2 IO, LVDS16n (io), J4 IO, _/DQ1L17 (io), L8 IO (io)
part C pins: A3 IO, LVDS27p (io), A4 IO, LVDS28p (io), A5 IO, LVDS29p (io), A6 IO, LVDS30p, (CDPCLK7/DQS1T)/(CDPCLK7/DQS1T) (io), A7 IO, LVDS35p, DQ3T1/DQ3T10 (io), A8 IO, LVDS36p, (DPCLK11/DQS3T)/(DPCLK11/DQS3T) (io), A9 IO, LVDS39p, DQ5T7/DQ3T7 (io), A10 IO, LVDS41p, DQ5T3/DQ3T3 (io), A11 IO, LVDS44p, (DPCLK10/DQS5T)/(DPCLK10/DQS5T) (io), B3 IO, LVDS27n (DEV_CLRn) (io), B4 IO, LVDS28n (io), B5 IO, LVDS29n, (DM3T/BWS#3T)/(DM3T1/BWS#3T1) (io), B6 IO, LVDS30n (io), B7 IO, LVDS35n, DQ3T0/DQ3T9 (io), B8 IO, LVDS36n (io), B9 IO, LVDS39n, DQ5T6/DQ3T6 (io), B10 IO, LVDS41n, DQ5T2/DQ3T2 (io), B11 IO, LVDS44n (io), C7 IO, VREFB3N1 (io), C9 IO, LVDS33p, DQ3T5/DQ3T14 (io), C10 IO, VREFB3N0 (io), D7 IO, DQ3T6/DQ3T15 (io), D8 IO, LVDS33n, DQ3T4/DQ3T13 (io), D9 IO, LVDS37p, (DM5T/BWS#5T)/(DM3T0/BWS#3T0) (io), D11 IO, LVDS43p, DQ5T1/DQ3T1 (io), E7 IO, DQ3T8/DQ3T17 (io), E8 IO, LVDS34p, DQ3T3/DQ3T12 (io), E9 IO, LVDS37n, DQ5T8/DQ3T8 (io), E11 IO, LVDS43n, DQ5T0/DQ3T0 (io), F8 IO, LVDS32n, DQ3T7/DQ3T16 (io), F9 IO, LVDS34n, DQ3T2/DQ3T11 (io), F10 IO, LVDS40p, DQ5T5/DQ3T5 (io), F11 IO, LVDS40n, DQ5T4/DQ3T4 (io), G7 IO, LVDS31n (io), G8 IO, LVDS32p (io), G11 IO, LVDS42p (io), H7 IO, LVDS31p (io), H8 IO (io), H9 IO, LVDS38p (io), H10 IO, LVDS38n (io), H11 IO, LVDS42n (io)
part D pins: A13 IO, LVDS45p, (DPCLK9/DQS4T)/(DPCLK9/DQS4T) (io), A14 IO, LVDS46p, DM4T/(DM5T1/BWS#5T1) (io), A15 IO, LVDS48p, DQ4T6/DQ5T15 (io), A16 IO, LVDS49p, DQ4T4/DQ5T13 (io), A17 IO, LVDS52p, (DPCLK8/DQS2T)/(DPCLK8/DQS2T) (io), A18 IO, LVDS58p, (CDPCLK6/DQS0T)/(CDPCLK6/DQS0T) (io), A19 IO, LVDS59p, DQ2T3/DQ5T3 (io), A20 IO, LVDS60p, DQ2T1/DQ5T1 (io), B13 IO, LVDS45n (io), B14 IO, LVDS46n, _/DQ5T17 (io), B15 IO, LVDS48n, DQ4T5/DQ5T14 (io), B16 IO, LVDS49n, DQ4T3/DQ5T12 (io), B17 IO, LVDS52n (io), B18 IO, LVDS58n (io), B19 IO, LVDS59n, DQ2T2/DQ5T2 (io), B20 IO, LVDS60n, DQ2T0/DQ5T0 (io), C13 IO, VREFB4N1 (io), C14 IO, LVDS54p, DQ2T7/DQ5T7 (io), C16 IO, VREFB4N0 (io), C17 IO, LVDS61p (io), C18 IO, LVDS61n (io), D14 IO, LVDS51p, DQ4T0/DQ5T9 (io), D15 IO, LVDS54n, DQ2T6/DQ5T6 (io), D16 IO, LVDS56n, DQ2T4/DQ5T4 (io), E14 IO, LVDS51n, DM2T/(DM5T0/BWS#5T0) (io), E15 IO, LVDS56p, DQ2T5/DQ5T5 (io), F12 IO, LVDS47n, DQ4T7/DQ5T16 (io), F13 IO, LVDS50p, DQ4T2/DQ5T11 (io), F14 IO, LVDS50n, DQ4T1/DQ5T10 (io), F15 IO, LVDS53p, _/DQ5T8 (io), G12 IO, LVDS47p (io), G15 IO, LVDS53n (io), G16 IO, LVDS57n (io), H12 IO (io), H13 IO (io), H14 IO, LVDS55n (io), H15 IO, LVDS57p (io), J14 IO, LVDS55p (io)
part E pins: C19 IO, LVDS63n (io), C20 IO, LVDS63p (io), C21 IO, LVDS64n (io), C22 IO, LVDS64p (io), D19 IO, LVDS62n (io), D20 IO, LVDS62p (io), D21 IO, LVDS67n, DQ2R4/DQ1R4 (io), D22 IO, LVDS67p (io), E18 IO, PLL2_OUTn (io), E19 IO, PLL2_OUTp (io), E20 IO, LVDS65n, DQ2R1/DQ1R1 (io), E21 IO, LVDS68n, DQ2R6/DQ1R6 (io), E22 IO, LVDS68p, DQ2R5/DQ1R5 (io), F20 IO, LVDS65p, DQ2R0/DQ1R0 (io), F21 IO, LVDS70n (io), F22 IO, LVDS70p, (CDPCLK5/DQS2R)/(CDPCLK5/DQS2R) (io), G17 IO, LVDS66n, DQ2R3/DQ1R3 (io), G18 IO, LVDS66p, DQ2R2/DQ1R2 (io), G20 IO, VREFB5N0 (io), G21 IO, LVDS71n, DQ0R0/DQ1R9 (io), G22 IO, LVDS71p, DM2R/(DM1R0/BWS#1R0) (io), H16 IO, LVDS72p (io), H17 IO, LVDS69p, DQ2R7/DQ1R7 (io), H18 IO, LVDS69n, _/DQ1R8 (io), H19 IO, LVDS74p, DQ0R4/DQ1R13 (io), J15 IO (io), J17 IO, LVDS72n, DQ0R1/DQ1R10 (io), J18 IO, LVDS73p, DQ0R2/DQ1R11 (io), J19 IO, LVDS73n, DQ0R3/DQ1R12 (io), J20 IO, LVDS74n, DQ0R5/DQ1R14 (io), J21 IO, LVDS75n, DQ0R7/DQ1R16 (io), J22 IO, LVDS75p, DQ0R6/DQ1R15 (io), K20 IO, VREFB5N1 (io), K21 IO, LVDS76n, DM0R/(DM1R1/BWS#1R1) (io), K22 IO, LVDS76p, _/DQ1R17 (io), L18 IO, LVDS77p, (DPCLK7/DQS0R)/(DPCLK7/DQS0R) (io), L19 IO, LVDS77n (io)
part F pins: M18 IO, LVDS78p, (DPCLK6/DQS1R)/(DPCLK6/DQS1R) (io), M19 IO, LVDS78n (io), N15 IO, LVDS80p (io), N21 IO, LVDS79n, DQ1R1/DQ3R1 (io), N22 IO, LVDS79p, DQ1R0/DQ3R0 (io), P15 IO, LVDS80n (io), P17 IO, LVDS83n, DQ1R7/DQ3R7 (io), P18 IO, LVDS83p, DQ1R6/DQ3R6 (io), R17 IO, DQ3R4/DQ3R13 (io), R18 IO, LVDS84n, (DM1R/BWS#1R)/(DM3R0/BWS#3R0) (io), R19 IO, LVDS84p, DQ1R8/DQ3R8 (io), R20 IO, VREFB6N0 (io), R21 IO, LVDS81n, DQ1R3/DQ3R3 (io), R22 IO, LVDS81p, DQ1R2/DQ3R2 (io), T18 IO, PLL4_OUTp (io), T21 IO, LVDS82n, DQ1R5/DQ3R5 (io), T22 IO, LVDS82p, DQ1R4/DQ3R4 (io), U18 IO, PLL4_OUTn (io), U19 IO, LVDS89n, DQ3R8/DQ3R17 (io), U20 IO, VREFB6N1 (io), U21 IO, LVDS85n (io), U22 IO, LVDS85p, (CDPCLK4/DQS3R)/(CDPCLK4/DQS3R) (io), V19 IO, LVDS91n (INIT_DONE) (io), V20 IO, LVDS89p, DQ3R7/DQ3R16 (io), V21 IO, LVDS86n, DQ3R1/DQ3R10 (io), V22 IO, LVDS86p, DQ3R0/DQ3R9 (io), W20 IO, LVDS91p (nCEO) (io), W21 IO, LVDS88n, DQ3R6/DQ3R15 (io), W22 IO, LVDS88p, DQ3R5/DQ3R14 (io), Y18 IO (io), Y19 IO, LVDS90n (io), Y20 IO, LVDS90p, (DM3R/BWS#3R)/(DM3R1/BWS#3R1) (io), Y21 IO, LVDS87n, DQ3R3/DQ3R12 (io), Y22 IO, LVDS87p, DQ3R2/DQ3R11 (io)
part G pins: AA12 IO, LVDS108n (io), AA13 IO, LVDS107n, _/DQ5B17 (io), AA14 IO, LVDS105n, DQ4B5/DQ5B14 (io), AA15 IO, LVDS104n, DQ4B3/DQ5B12 (io), AA16 IO, LVDS103n, DQ4B1/DQ5B10 (io), AA17 IO, LVDS101n (io), AA18 IO, LVDS97n, DQ2B4/DQ5B4 (io), AA19 IO, LVDS93n, DQ2B0/DQ5B0 (io), AA20 IO, LVDS92n (io), AB12 IO, LVDS108p, (DPCLK4/DQS4B)/(DPCLK4/DQS4B) (io), AB13 IO, LVDS107p, DM4B/(DM5B1/BWS#5B1) (io), AB14 IO, LVDS105p, DQ4B6/DQ5B15 (io), AB15 IO, LVDS104p, DQ4B4/DQ5B13 (io), AB16 IO, LVDS103p, DQ4B2/DQ5B11 (io), AB17 IO, LVDS101p, (DPCLK5/DQS2B)/(DPCLK5/DQS2B) (io), AB18 IO, LVDS97p, DQ2B5/DQ5B5 (io), AB19 IO, LVDS93p, DQ2B1/DQ5B1 (io), AB20 IO, LVDS92p (io), R12 IO (io), R13 IO (io), R14 IO, LVDS98p (io), R15 IO, LVDS98n (io), R16 IO, LVDS96p (io), T12 IO, LVDS106p (io), T15 IO, LVDS100n (io), T16 IO, LVDS96n (io), U13 IO, LVDS106n, DQ4B7/DQ5B16 (io), U14 IO, LVDS100p, _/DQ5B8 (io), U15 IO, LVDS95p, (CDPCLK3/DQS0B)/(CDPCLK3/DQS0B) (io), V14 IO, LVDS102n, DM2B/(DM5B0/BWS#5B0) (io), V15 IO, LVDS95n (io), W14 IO, LVDS102p, DQ4B0/DQ5B9 (io), W15 IO, LVDS99n, DQ2B6/DQ5B6 (io), W16 IO, LVDS94n, DQ2B2/DQ5B2 (io), Y13 IO, VREFB7N1 (io), Y14 IO, LVDS99p, DQ2B7/DQ5B7 (io), Y16 IO, VREFB7N0 (io), Y17 IO, LVDS94p, DQ2B3/DQ5B3 (io)
part H pins: AA3 IO, LVDS127n (DEV_OE) (io), AA4 IO, LVDS126n (io), AA5 IO, LVDS124n (io), AA6 IO, LVDS121n, DQ3B6/DQ3B15 (io), AA7 IO, LVDS118n, DQ3B0/DQ3B9 (io), AA8 IO, LVDS114n, DQ5B6/DQ3B6 (io), AA9 IO, LVDS113n, DQ5B4/DQ3B4 (io), AA10 IO, LVDS110n, DQ5B0/DQ3B0 (io), AA11 IO, LVDS109n (io), AB3 IO, LVDS127p (io), AB4 IO, LVDS126p (io), AB5 IO, LVDS124p, (CDPCLK2/DQS1B)/(CDPCLK2/DQS1B) (io), AB6 IO, LVDS121p, DQ3B7/DQ3B16 (io), AB7 IO, LVDS118p, DQ3B1/DQ3B10 (io), AB8 IO, LVDS114p, DQ5B7/DQ3B7 (io), AB9 IO, LVDS113p, DQ5B5/DQ3B5 (io), AB10 IO, LVDS110p, DQ5B1/DQ3B1 (io), AB11 IO, LVDS109p, (DPCLK3/DQS5B)/(DPCLK3/DQS5B) (io), P8 IO, LVDS122n (io), P9 IO, LVDS122p (io), R9 IO, LVDS115n (io), R10 IO, LVDS115p (io), R11 IO, LVDS112n (io), T7 IO, LVDS123n (io), T8 IO, LVDS123p (io), T11 IO, LVDS112p (io), U8 IO, DQ3B8/DQ3B17 (io), U9 IO, LVDS116p, (DM5B/BWS#5B)/(DM3B0/BWS#3B0) (io), U10 IO, LVDS116n, DQ5B8/DQ3B8 (io), V8 IO, LVDS120p, DQ3B5/DQ3B14 (io), V9 IO, LVDS119n, DQ3B2/DQ3B11 (io), V11 IO, LVDS111n, DQ5B2/DQ3B2 (io), W7 IO, LVDS120n, DQ3B4/DQ3B13 (io), W8 IO, LVDS119p, DQ3B3/DQ3B12 (io), W9 IO, LVDS117n (io), W11 IO, LVDS111p, DQ5B3/DQ3B3 (io), Y5 IO, LVDS125p (io), Y6 IO, LVDS125n, (DM3B/BWS#3B)/(DM3B1/BWS#3B1) (io), Y7 IO, VREFB8N1 (io), Y9 IO, LVDS117p, (DPCLK2/DQS3B)/(DPCLK2/DQS3B) (io), Y10 IO, VREFB8N0 (io)
part I pins: K1 nCE (in), K2 TCK (in), K4 DATA0 (in), K5 TDI (in), K6 TMS (in), L4 nCONFIG (in), L5 TDO (out), L6 DCLK (io), M17 MSEL0 (in), N17 MSEL1 (in), N18 CONF_DONE (io), N20 nSTATUS (io)
part J pins: A2 VCCIO3 (power), A21 VCCIO4 (power), AA1 VCCIO1 (power), AA22 VCCIO6 (power), AB2 VCCIO8 (power), AB21 VCCIO7 (power), B1 VCCIO2 (power), B22 VCCIO5 (power), C6 VCCIO3 (power), C11 VCCIO3 (power), C12 VCCIO4 (power), D17 VCCIO4 (power), E10 VCCIO3 (power), E13 VCCIO4 (power), G9 VCCIO3 (power), G14 VCCIO4 (power), G19 VCCIO5 (power), J7 VCCIO2 (power), J10 VCCINT (power), J11 VCCINT (power), J12 VCCINT (power), J13 VCCINT (power), J16 VCCIO5 (power), K9 VCCINT (power), K14 VCCINT (power), L3 VCCIO2 (power), L9 VCCINT (power), L14 VCCINT (power), L20 VCCIO5 (power), M3 VCCIO1 (power), M9 VCCINT (power), M14 VCCINT (power), M20 VCCIO6 (power), N9 VCCINT (power), N14 VCCINT (power), P7 VCCIO1 (power), P10 VCCINT (power), P11 VCCINT (power), P12 VCCINT (power), P13 VCCINT (power), P16 VCCIO6 (power), T4 VCCIO1 (power), T9 VCCIO8 (power), T14 VCCIO7 (power), T19 VCCIO6 (power), V10 VCCIO8 (power), V13 VCCIO7 (power), W6 VCCIO8 (power), W17 VCCIO7 (power), Y11 VCCIO8 (power), Y12 VCCIO7 (power)
part K pins: A1 GND (power), A22 GND (power), AA2 GND (power), AA21 GND (power), AB1 GND (power), AB22 GND (power), B2 GND (power), B21 GND (power), C5 GND (power), C8 GND (power), C15 GND (power), D10 GND (power), D13 GND (power), D18 GND (power), F19 GND (power), G4 GND (power), G10 GND (power), G13 GND (power), H20 GND (power), K3 GND (power), K7 GND (power), K10 GND (power), K11 GND (power), K12 GND (power), K13 GND (power), K16 GND (power), K19 GND (power), L10 GND (power), L11 GND (power), L12 GND (power), L13 GND (power), M4 GND (power), M10 GND (power), M11 GND (power), M12 GND (power), M13 GND (power), N7 GND (power), N10 GND (power), N11 GND (power), N12 GND (power), N13 GND (power), N16 GND (power), N19 GND (power), R3 GND (power), T10 GND (power), T13 GND (power), T20 GND (power), V3 GND (power), V6 GND (power), V17 GND (power), W10 GND (power), W13 GND (power), W19 GND (power), Y8 GND (power), Y15 GND (power)
part L pins: E5 VCCD_PLL3 (power), E6 VCCA_PLL3 (power), E16 GNDA_PLL2 (power), E17 GND_PLL2 (power), F5 GND_PLL3 (power), F6 GND_PLL3 (power), F7 GNDA_PLL3 (power), F16 VCCA_PLL2 (power), F17 VCCD_PLL2 (power), F18 GND_PLL2 (power), T17 GND_PLL4 (power), U5 GND_PLL1 (power), U6 VCCD_PLL1 (power), U7 VCCA_PLL1 (power), U16 VCCA_PLL4 (power), U17 VCCD_PLL4 (power), V5 GND_PLL1 (power), V7 GNDA_PLL1 (power), V16 GNDA_PLL4 (power), V18 GND_PLL4 (power)
part M pins: A12 CLK9, LVDSCLK4p INPUT (in), B12 CLK8, LVDSCLK4n INPUT (in), D12 CLK10, LVDSCLK5n INPUT (in), E12 CLK11, LVDSCLK5p INPUT (in), L1 CLK0, LVDSCLK0p INPUT (in), L2 CLK1, LVDSCLK0n INPUT (in), L21 CLK5, LVDSCLK2n INPUT (in), L22 CLK4, LVDSCLK2p INPUT (in), M1 CLK2, LVDSCLK1p INPUT (in), M2 CLK3, LVDSCLK1n INPUT (in), M21 CLK7, LVDSCLK3n INPUT (in), M22 CLK6, LVDSCLK3p INPUT (in), U11 CLK15, LVDSCLK7p INPUT (in), U12 CLK14, LVDSCLK7n INPUT (in), V12 CLK12, LVDSCLK6n INPUT (in), W12 CLK13, LVDSCLK6p INPUT (in)
part N pins: G1 NC, G2 NC, H21 NC, H22 NC, J3 NC, J5 NC, J6 NC, J8 NC, J9 NC, K8 NC, K15 NC, K17 NC, K18 NC, L7 NC, L15 NC, L16 NC, L17 NC, M7 NC, M8 NC, M15 NC, M16 NC, N5 NC, N8 NC, P4 NC, P14 NC, P19 NC, P20 NC, P21 NC, P22 NC, R4 NC, W18 NC
part A text: BANK 1
part B text: BANK 2
part C text: BANK 3
part D text: BANK 4
part E text: BANK 5
part F text: BANK 6
part G text: BANK 7
part H text: BANK 8

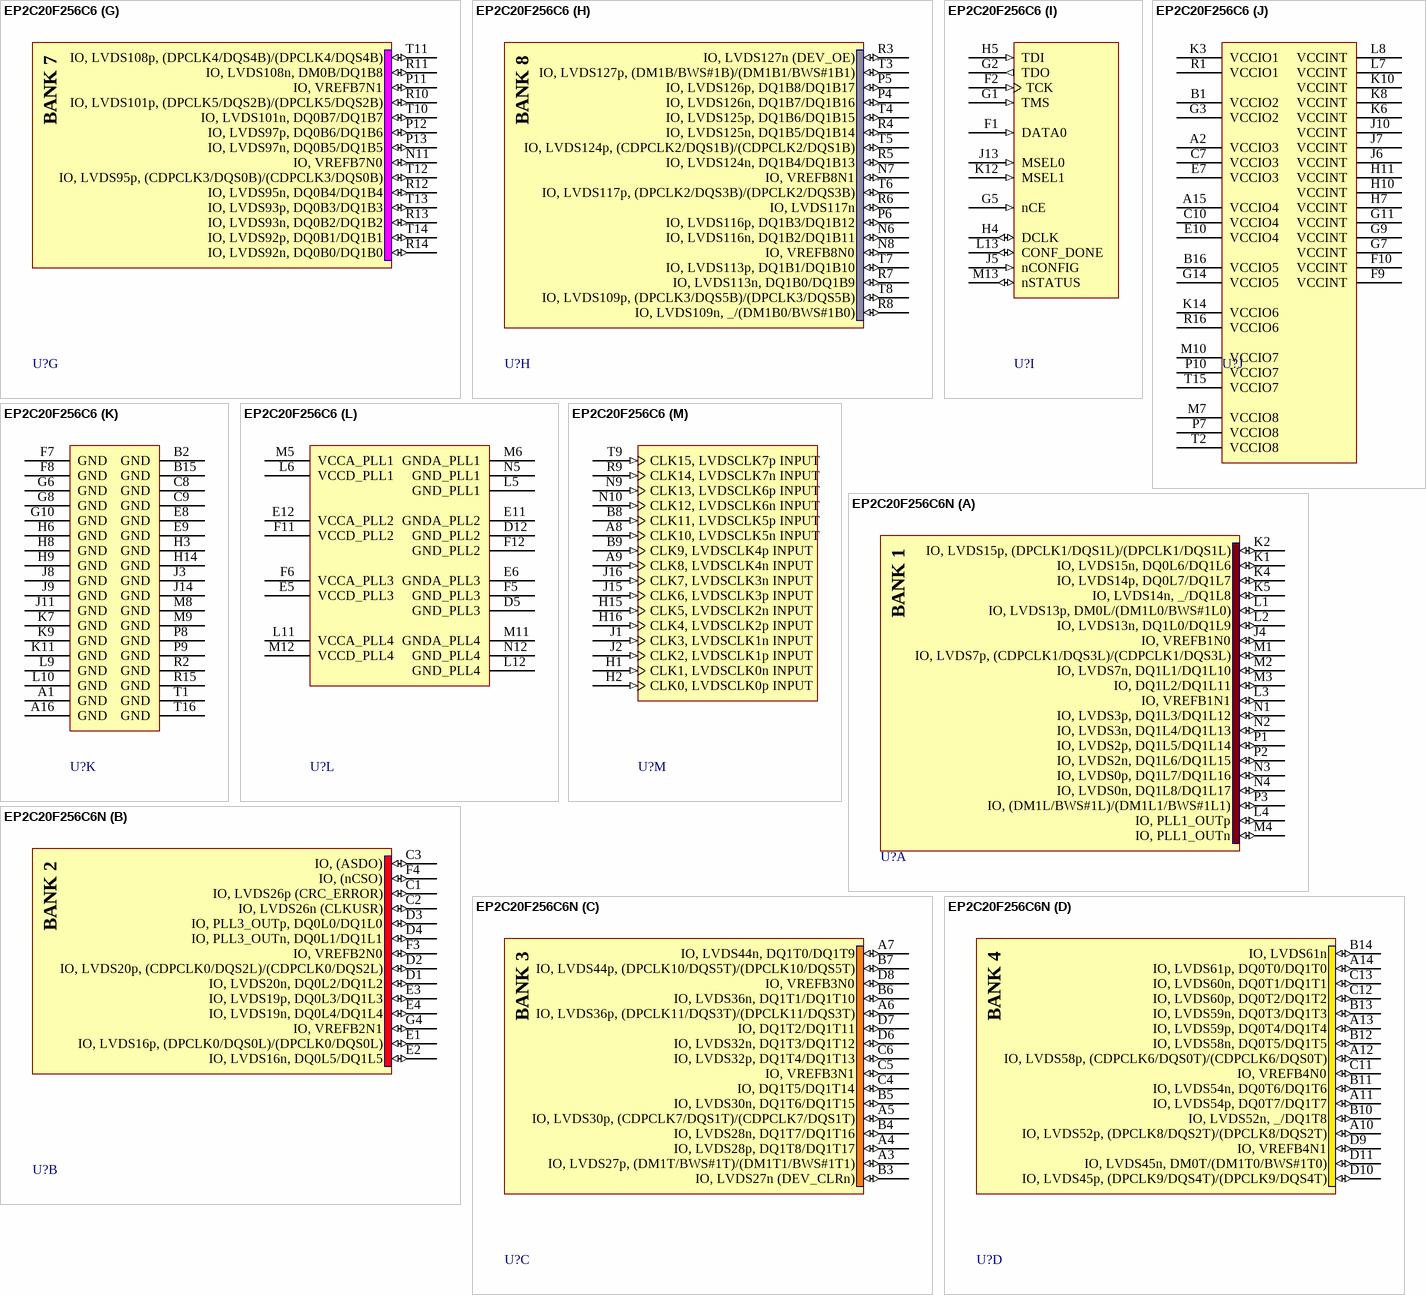
[diagram p109: symbols EP2C20F256C6 to EP2C20F256C6N]

## EP2C20F256C6
designator U?
Cyclone II Family, 1.2V FPGA, 152 I/O Pins, 4 PLLs, 256-Pin FBGA, Speed Grade 6, Commercial Grade; Note: DQS signal pins named according to DQ bus modes.  "/" separates each mode. ie. Modes x8/x9 / Modes x16/x18.; DatasheetVersion: ver3.3, Feb-2008; PackageVersion: ver16.0, Dec-2009; PackageReference: FBGA256-2; PackageDescription: 256-Ball FineLine Ball Grid Array (FBGA256) - Option 2 - Wire Bond; Code_JEDEC: MO-192-DAF-1; ComponentLink1Description: Manufacturer URL; ComponentLink1URL: http://www.altera.com/; ComponentLink2Description: Handbook; ComponentLink2URL: http://www.altera.com/literature/hb/cyc2/cyc2_cii5v1.pdf; ComponentLink3Description: Package Specification; ComponentLink3URL: http://www.altera.com/literature/ds/dspkg.pdf
footprint FBGA256-2 (BGA, 256-Leads, Body 17x17mm, Pitch 1mm)
part A pins: J4 IO, VREFB1N0 (io), K1 IO, LVDS15n, DQ0L6/DQ1L6 (io), K2 IO, LVDS15p, (DPCLK1/DQS1L)/(DPCLK1/DQS1L) (io), K4 IO, LVDS14p, DQ0L7/DQ1L7 (io), K5 IO, LVDS14n, _/DQ1L8 (io), L1 IO, LVDS13p, DM0L/(DM1L0/BWS#1L0) (io), L2 IO, LVDS13n, DQ1L0/DQ1L9 (io), L3 IO, VREFB1N1 (io), L4 IO, PLL1_OUTp (io), M1 IO, LVDS7p, (CDPCLK1/DQS3L)/(CDPCLK1/DQS3L) (io), M2 IO, LVDS7n, DQ1L1/DQ1L10 (io), M3 IO, DQ1L2/DQ1L11 (io), M4 IO, PLL1_OUTn (io), N1 IO, LVDS3p, DQ1L3/DQ1L12 (io), N2 IO, LVDS3n, DQ1L4/DQ1L13 (io), N3 IO, LVDS0p, DQ1L7/DQ1L16 (io), N4 IO, LVDS0n, DQ1L8/DQ1L17 (io), P1 IO, LVDS2p, DQ1L5/DQ1L14 (io), P2 IO, LVDS2n, DQ1L6/DQ1L15 (io), P3 IO, (DM1L/BWS#1L)/(DM1L1/BWS#1L1) (io)
part B pins: C1 IO, LVDS26p (CRC_ERROR) (io), C2 IO, LVDS26n (CLKUSR) (io), C3 IO, (ASDO) (io), D1 IO, LVDS20n, DQ0L2/DQ1L2 (io), D2 IO, LVDS20p, (CDPCLK0/DQS2L)/(CDPCLK0/DQS2L) (io), D3 IO, PLL3_OUTp, DQ0L0/DQ1L0 (io), D4 IO, PLL3_OUTn, DQ0L1/DQ1L1 (io), E1 IO, LVDS16p, (DPCLK0/DQS0L)/(DPCLK0/DQS0L) (io), E2 IO, LVDS16n, DQ0L5/DQ1L5 (io), E3 IO, LVDS19p, DQ0L3/DQ1L3 (io), E4 IO, LVDS19n, DQ0L4/DQ1L4 (io), F3 IO, VREFB2N0 (io), F4 IO, (nCSO) (io), G4 IO, VREFB2N1 (io)
part C pins: A3 IO, LVDS27p, (DM1T/BWS#1T)/(DM1T1/BWS#1T1) (io), A4 IO, LVDS28p, DQ1T8/DQ1T17 (io), A5 IO, LVDS30p, (CDPCLK7/DQS1T)/(CDPCLK7/DQS1T) (io), A6 IO, LVDS36p, (DPCLK11/DQS3T)/(DPCLK11/DQS3T) (io), A7 IO, LVDS44n, DQ1T0/DQ1T9 (io), B3 IO, LVDS27n (DEV_CLRn) (io), B4 IO, LVDS28n, DQ1T7/DQ1T16 (io), B5 IO, LVDS30n, DQ1T6/DQ1T15 (io), B6 IO, LVDS36n, DQ1T1/DQ1T10 (io), B7 IO, LVDS44p, (DPCLK10/DQS5T)/(DPCLK10/DQS5T) (io), C4 IO, DQ1T5/DQ1T14 (io), C5 IO, VREFB3N1 (io), C6 IO, LVDS32p, DQ1T4/DQ1T13 (io), D6 IO, LVDS32n, DQ1T3/DQ1T12 (io), D7 IO, DQ1T2/DQ1T11 (io), D8 IO, VREFB3N0 (io)
part D pins: A10 IO, LVDS52p, (DPCLK8/DQS2T)/(DPCLK8/DQS2T) (io), A11 IO, LVDS54p, DQ0T7/DQ1T7 (io), A12 IO, LVDS58p, (CDPCLK6/DQS0T)/(CDPCLK6/DQS0T) (io), A13 IO, LVDS59p, DQ0T4/DQ1T4 (io), A14 IO, LVDS61p, DQ0T0/DQ1T0 (io), B10 IO, LVDS52n, _/DQ1T8 (io), B11 IO, LVDS54n, DQ0T6/DQ1T6 (io), B12 IO, LVDS58n, DQ0T5/DQ1T5 (io), B13 IO, LVDS59n, DQ0T3/DQ1T3 (io), B14 IO, LVDS61n (io), C11 IO, VREFB4N0 (io), C12 IO, LVDS60p, DQ0T2/DQ1T2 (io), C13 IO, LVDS60n, DQ0T1/DQ1T1 (io), D9 IO, VREFB4N1 (io), D10 IO, LVDS45p, (DPCLK9/DQS4T)/(DPCLK9/DQS4T) (io), D11 IO, LVDS45n, DM0T/(DM1T0/BWS#1T0) (io)
part E pins: C14 IO, LVDS62n (io), C15 IO, LVDS64n (io), C16 IO, LVDS64p (io), D13 IO, LVDS62p (io), D14 IO, PLL2_OUTn (io), D15 IO, LVDS70n (io), D16 IO, LVDS70p, (CDPCLK5/DQS2R)/(CDPCLK5/DQS2R) (io), E13 IO, LVDS72n, DQ0R3/DQ1R3 (io), E14 IO, PLL2_OUTp (io), E15 IO, LVDS68n, DQ0R1/DQ1R1 (io), E16 IO, LVDS68p, DQ0R0/DQ1R0 (io), F13 IO, LVDS72p, DQ0R2/DQ1R2 (io), F14 IO, VREFB5N0 (io), F15 IO, LVDS75n, DQ0R7/DQ1R7 (io), F16 IO, LVDS75p, DQ0R6/DQ1R6 (io), G12 IO, LVDS73n, DQ0R5/DQ1R5 (io), G13 IO, LVDS73p, DQ0R4/DQ1R4 (io), G15 IO, LVDS76p, _/DQ1R8 (io), G16 IO, LVDS76n, DM0R/(DM1R0/BWS#1R0) (io), H12 IO, LVDS77n, DQ1R0/DQ1R9 (io), H13 IO, VREFB5N1 (io), J12 IO, LVDS77p, (DPCLK7/DQS0R)/(DPCLK7/DQS0R) (io)
part F pins: K13 IO (io), K15 IO, LVDS78p, (DPCLK6/DQS1R)/(DPCLK6/DQS1R) (io), K16 IO, LVDS78n, DQ1R1/DQ1R10 (io), L14 IO, VREFB6N0 (io), L15 IO, LVDS80n, DQ1R3/DQ1R12 (io), L16 IO, LVDS80p, DQ1R2/DQ1R11 (io), M14 IO, VREFB6N1 (io), M15 IO, LVDS85n, DQ1R4/DQ1R13 (io), M16 IO, LVDS85p, (CDPCLK4/DQS3R)/(CDPCLK4/DQS3R) (io), N13 IO, LVDS91n (INIT_DONE) (io), N14 IO, LVDS91p (nCEO) (io), N15 IO, LVDS89n, DQ1R7/DQ1R16 (io), N16 IO, LVDS89p, DQ1R6/DQ1R15 (io), P14 IO, DQ1R5/DQ1R14 (io), P15 IO, PLL4_OUTn, (DM1R/BWS#1R)/(DM1R1/BWS#1R1) (io), P16 IO, PLL4_OUTp, DQ1R8/DQ1R17 (io)
part G pins: N11 IO, VREFB7N0 (io), P11 IO, VREFB7N1 (io), P12 IO, LVDS97p, DQ0B6/DQ1B6 (io), P13 IO, LVDS97n, DQ0B5/DQ1B5 (io), R10 IO, LVDS101p, (DPCLK5/DQS2B)/(DPCLK5/DQS2B) (io), R11 IO, LVDS108n, DM0B/DQ1B8 (io), R12 IO, LVDS95n, DQ0B4/DQ1B4 (io), R13 IO, LVDS93n, DQ0B2/DQ1B2 (io), R14 IO, LVDS92n, DQ0B0/DQ1B0 (io), T10 IO, LVDS101n, DQ0B7/DQ1B7 (io), T11 IO, LVDS108p, (DPCLK4/DQS4B)/(DPCLK4/DQS4B) (io), T12 IO, LVDS95p, (CDPCLK3/DQS0B)/(CDPCLK3/DQS0B) (io), T13 IO, LVDS93p, DQ0B3/DQ1B3 (io), T14 IO, LVDS92p, DQ0B1/DQ1B1 (io)
part H pins: N6 IO, LVDS116n, DQ1B2/DQ1B11 (io), N7 IO, VREFB8N1 (io), N8 IO, VREFB8N0 (io), P4 IO, LVDS126n, DQ1B7/DQ1B16 (io), P5 IO, LVDS126p, DQ1B8/DQ1B17 (io), P6 IO, LVDS116p, DQ1B3/DQ1B12 (io), R3 IO, LVDS127n (DEV_OE) (io), R4 IO, LVDS125n, DQ1B5/DQ1B14 (io), R5 IO, LVDS124n, DQ1B4/DQ1B13 (io), R6 IO, LVDS117n (io), R7 IO, LVDS113n, DQ1B0/DQ1B9 (io), R8 IO, LVDS109n, _/(DM1B0/BWS#1B0) (io), T3 IO, LVDS127p, (DM1B/BWS#1B)/(DM1B1/BWS#1B1) (io), T4 IO, LVDS125p, DQ1B6/DQ1B15 (io), T5 IO, LVDS124p, (CDPCLK2/DQS1B)/(CDPCLK2/DQS1B) (io), T6 IO, LVDS117p, (DPCLK2/DQS3B)/(DPCLK2/DQS3B) (io), T7 IO, LVDS113p, DQ1B1/DQ1B10 (io), T8 IO, LVDS109p, (DPCLK3/DQS5B)/(DPCLK3/DQS5B) (io)
part I pins: F1 DATA0 (in), F2 TCK (in), G1 TMS (in), G2 TDO (out), G5 nCE (in), H4 DCLK (io), H5 TDI (in), J5 nCONFIG (in), J13 MSEL0 (in), K12 MSEL1 (in), L13 CONF_DONE (io), M13 nSTATUS (io)
part J pins: A2 VCCIO3 (power), A15 VCCIO4 (power), B1 VCCIO2 (power), B16 VCCIO5 (power), C7 VCCIO3 (power), C10 VCCIO4 (power), E7 VCCIO3 (power), E10 VCCIO4 (power), F9 VCCINT (power), F10 VCCINT (power), G3 VCCIO2 (power), G7 VCCINT (power), G9 VCCINT (power), G11 VCCINT (power), G14 VCCIO5 (power), H7 VCCINT (power), H10 VCCINT (power), H11 VCCINT (power), J6 VCCINT (power), J7 VCCINT (power), J10 VCCINT (power), K3 VCCIO1 (power), K6 VCCINT (power), K8 VCCINT (power), K10 VCCINT (power), K14 VCCIO6 (power), L7 VCCINT (power), L8 VCCINT (power), M7 VCCIO8 (power), M10 VCCIO7 (power), P7 VCCIO8 (power), P10 VCCIO7 (power), R1 VCCIO1 (power), R16 VCCIO6 (power), T2 VCCIO8 (power), T15 VCCIO7 (power)
part K pins: A1 GND (power), A16 GND (power), B2 GND (power), B15 GND (power), C8 GND (power), C9 GND (power), E8 GND (power), E9 GND (power), F7 GND (power), F8 GND (power), G6 GND (power), G8 GND (power), G10 GND (power), H3 GND (power), H6 GND (power), H8 GND (power), H9 GND (power), H14 GND (power), J3 GND (power), J8 GND (power), J9 GND (power), J11 GND (power), J14 GND (power), K7 GND (power), K9 GND (power), K11 GND (power), L9 GND (power), L10 GND (power), M8 GND (power), M9 GND (power), P8 GND (power), P9 GND (power), R2 GND (power), R15 GND (power), T1 GND (power), T16 GND (power)
part L pins: D5 GND_PLL3 (power), D12 GND_PLL2 (power), E5 VCCD_PLL3 (power), E6 GNDA_PLL3 (power), E11 GNDA_PLL2 (power), E12 VCCA_PLL2 (power), F5 GND_PLL3 (power), F6 VCCA_PLL3 (power), F11 VCCD_PLL2 (power), F12 GND_PLL2 (power), L5 GND_PLL1 (power), L6 VCCD_PLL1 (power), L11 VCCA_PLL4 (power), L12 GND_PLL4 (power), M5 VCCA_PLL1 (power), M6 GNDA_PLL1 (power), M11 GNDA_PLL4 (power), M12 VCCD_PLL4 (power), N5 GND_PLL1 (power), N12 GND_PLL4 (power)
part M pins: A8 CLK10, LVDSCLK5n INPUT (in), A9 CLK8, LVDSCLK4n INPUT (in), B8 CLK11, LVDSCLK5p INPUT (in), B9 CLK9, LVDSCLK4p INPUT (in), H1 CLK1, LVDSCLK0n INPUT (in), H2 CLK0, LVDSCLK0p INPUT (in), H15 CLK5, LVDSCLK2n INPUT (in), H16 CLK4, LVDSCLK2p INPUT (in), J1 CLK3, LVDSCLK1n INPUT (in), J2 CLK2, LVDSCLK1p INPUT (in), J15 CLK6, LVDSCLK3p INPUT (in), J16 CLK7, LVDSCLK3n INPUT (in), N9 CLK13, LVDSCLK6p INPUT (in), N10 CLK12, LVDSCLK6n INPUT (in), R9 CLK14, LVDSCLK7n INPUT (in), T9 CLK15, LVDSCLK7p INPUT (in)
part A text: BANK 1
part B text: BANK 2
part C text: BANK 3
part D text: BANK 4
part E text: BANK 5
part F text: BANK 6
part G text: BANK 7
part H text: BANK 8

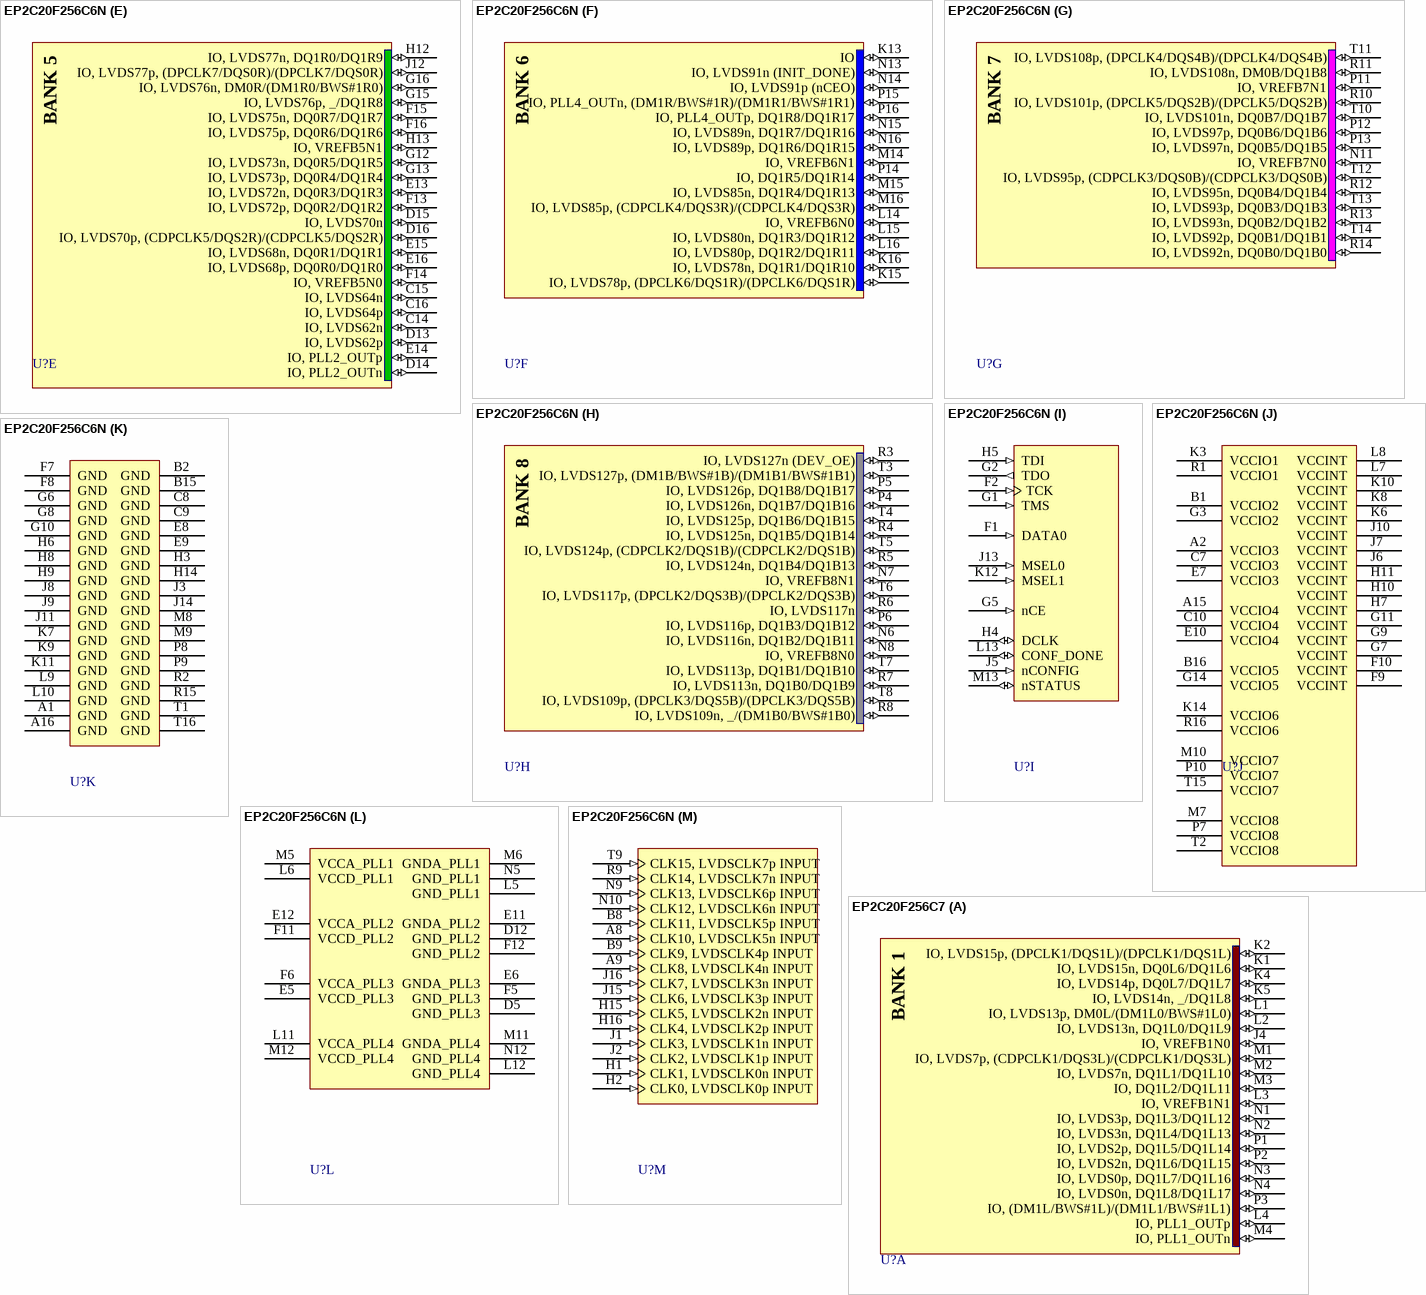
[diagram p110: symbols EP2C20F256C6N to EP2C20F256C7]